# Altium integrated library Atmel Microcontroller AVR Automotive.IntLib: 198 symbols (part 2 of 8)
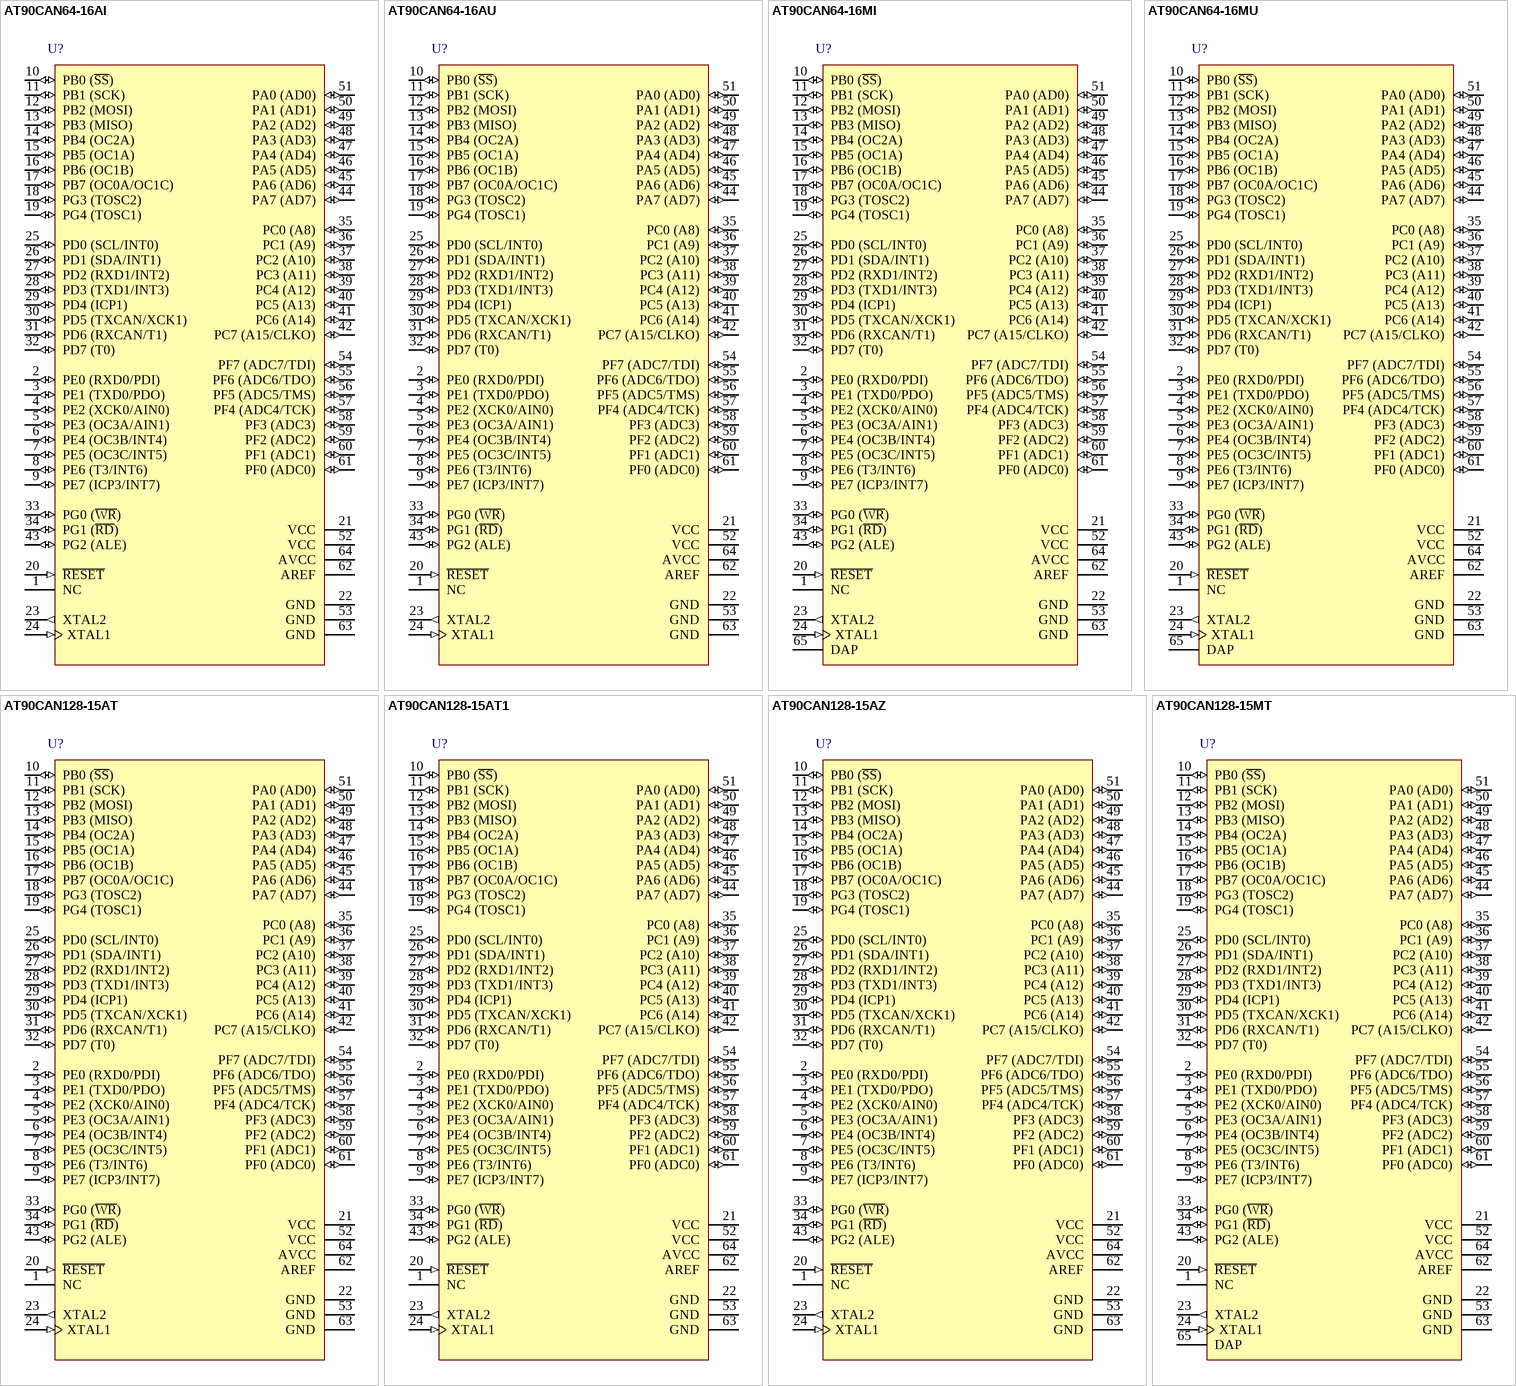
[diagram p23: symbols AT90CAN64-16AI to AT90CAN128-15MT]

## AT90CAN128-15AT1
designator U?
8-bit Automotive AVR Microcontroller, 128KB Flash and CAN Controller, 53 GPIO pins, Automotive Grade (-40°to +105°C), 64-pin LQFP; DatasheetVersion: revC, Apr-2008; PackageVersion: revC, Oct-2010; PackageReference: 64A; PackageDescription: 64-Pin Plastic Thin Profile Quad Flat Pack, 14 x 14 x 1.0 mm Body, 0.8 mm Pitch (TQFP); Code_JEDEC: MS-026-AEB; ComponentLink1Description: Manufacturer URL; ComponentLink1URL: http://www.atmel.com/; ComponentLink2Description: AT90CAN32/64/128 Datasheet; ComponentLink2URL: http://www.atmel.com/dyn/resources/prod_documents/doc7682.pdf; ComponentLink3Description: AT90CAN32/64/128 Summary; ComponentLink3URL: http://www.atmel.com/dyn/resources/prod_documents/7682S.pdf
footprint 64A_N (Thin QFP, 64-Leads, Body 14x14mm, Pitch 0.8mm, IPC Medium Density)
footprint 64A_L (Thin QFP, 64-Leads, Body 14x14mm, Pitch 0.8mm, IPC High Density)
footprint 64A_M (Thin QFP, 64-Leads, Body 14x14mm, Pitch 0.8mm, IPC Low Density)
pins: 1 NC, 2 PE0 (RXD0/PDI) (io), 3 PE1 (TXD0/PDO) (io), 4 PE2 (XCK0/AIN0) (io), 5 PE3 (OC3A/AIN1) (io), 6 PE4 (OC3B/INT4) (io), 7 PE5 (OC3C/INT5) (io), 8 PE6 (T3/INT6) (io), 9 PE7 (ICP3/INT7) (io), 10 PB0 (~{SS}) (io), 11 PB1 (SCK) (io), 12 PB2 (MOSI) (io), 13 PB3 (MISO) (io), 14 PB4 (OC2A) (io), 15 PB5 (OC1A) (io), 16 PB6 (OC1B) (io), 17 PB7 (OC0A/OC1C) (io), 18 PG3 (TOSC2) (io), 19 PG4 (TOSC1) (io), 20 ~{RESET} (in), 21 VCC (power), 22 GND (power), 23 XTAL2 (out), 24 XTAL1 (in), 25 PD0 (SCL/INT0) (io), 26 PD1 (SDA/INT1) (io), 27 PD2 (RXD1/INT2) (io), 28 PD3 (TXD1/INT3) (io), 29 PD4 (ICP1) (io), 30 PD5 (TXCAN/XCK1) (io), 31 PD6 (RXCAN/T1) (io), 32 PD7 (T0) (io), 33 PG0 (~{WR}) (io), 34 PG1 (~{RD}) (io), 35 PC0 (A8) (io), 36 PC1 (A9) (io), 37 PC2 (A10) (io), 38 PC3 (A11) (io), 39 PC4 (A12) (io), 40 PC5 (A13) (io), 41 PC6 (A14) (io), 42 PC7 (A15/CLKO) (io), 43 PG2 (ALE) (io), 44 PA7 (AD7) (io), 45 PA6 (AD6) (io), 46 PA5 (AD5) (io), 47 PA4 (AD4) (io), 48 PA3 (AD3) (io), 49 PA2 (AD2) (io), 50 PA1 (AD1) (io), 51 PA0 (AD0) (io), 52 VCC (power), 53 GND (power), 54 PF7 (ADC7/TDI) (io), 55 PF6 (ADC6/TDO) (io), 56 PF5 (ADC5/TMS) (io), 57 PF4 (ADC4/TCK) (io), 58 PF3 (ADC3) (io), 59 PF2 (ADC2) (io), 60 PF1 (ADC1) (io), 61 PF0 (ADC0) (io), 62 AREF (power), 63 GND (power), 64 AVCC (power)

## AT90CAN128-15AZ
designator U?
8-bit Automotive AVR Microcontroller, 128KB Flash and CAN Controller, 53 GPIO pins, Automotive Grade (-40°to +125°C), 64-pin LQFP; DatasheetVersion: revC, Apr-2008; PackageVersion: revC, Oct-2010; PackageReference: 64A; PackageDescription: 64-Pin Plastic Thin Profile Quad Flat Pack, 14 x 14 x 1.0 mm Body, 0.8 mm Pitch (TQFP); Code_JEDEC: MS-026-AEB; ComponentLink1Description: Manufacturer URL; ComponentLink1URL: http://www.atmel.com/; ComponentLink2Description: AT90CAN32/64/128 Datasheet; ComponentLink2URL: http://www.atmel.com/dyn/resources/prod_documents/doc7682.pdf; ComponentLink3Description: AT90CAN32/64/128 Summary; ComponentLink3URL: http://www.atmel.com/dyn/resources/prod_documents/7682S.pdf
footprint 64A_N (Thin QFP, 64-Leads, Body 14x14mm, Pitch 0.8mm, IPC Medium Density)
footprint 64A_L (Thin QFP, 64-Leads, Body 14x14mm, Pitch 0.8mm, IPC High Density)
footprint 64A_M (Thin QFP, 64-Leads, Body 14x14mm, Pitch 0.8mm, IPC Low Density)
pins: 1 NC, 2 PE0 (RXD0/PDI) (io), 3 PE1 (TXD0/PDO) (io), 4 PE2 (XCK0/AIN0) (io), 5 PE3 (OC3A/AIN1) (io), 6 PE4 (OC3B/INT4) (io), 7 PE5 (OC3C/INT5) (io), 8 PE6 (T3/INT6) (io), 9 PE7 (ICP3/INT7) (io), 10 PB0 (~{SS}) (io), 11 PB1 (SCK) (io), 12 PB2 (MOSI) (io), 13 PB3 (MISO) (io), 14 PB4 (OC2A) (io), 15 PB5 (OC1A) (io), 16 PB6 (OC1B) (io), 17 PB7 (OC0A/OC1C) (io), 18 PG3 (TOSC2) (io), 19 PG4 (TOSC1) (io), 20 ~{RESET} (in), 21 VCC (power), 22 GND (power), 23 XTAL2 (out), 24 XTAL1 (in), 25 PD0 (SCL/INT0) (io), 26 PD1 (SDA/INT1) (io), 27 PD2 (RXD1/INT2) (io), 28 PD3 (TXD1/INT3) (io), 29 PD4 (ICP1) (io), 30 PD5 (TXCAN/XCK1) (io), 31 PD6 (RXCAN/T1) (io), 32 PD7 (T0) (io), 33 PG0 (~{WR}) (io), 34 PG1 (~{RD}) (io), 35 PC0 (A8) (io), 36 PC1 (A9) (io), 37 PC2 (A10) (io), 38 PC3 (A11) (io), 39 PC4 (A12) (io), 40 PC5 (A13) (io), 41 PC6 (A14) (io), 42 PC7 (A15/CLKO) (io), 43 PG2 (ALE) (io), 44 PA7 (AD7) (io), 45 PA6 (AD6) (io), 46 PA5 (AD5) (io), 47 PA4 (AD4) (io), 48 PA3 (AD3) (io), 49 PA2 (AD2) (io), 50 PA1 (AD1) (io), 51 PA0 (AD0) (io), 52 VCC (power), 53 GND (power), 54 PF7 (ADC7/TDI) (io), 55 PF6 (ADC6/TDO) (io), 56 PF5 (ADC5/TMS) (io), 57 PF4 (ADC4/TCK) (io), 58 PF3 (ADC3) (io), 59 PF2 (ADC2) (io), 60 PF1 (ADC1) (io), 61 PF0 (ADC0) (io), 62 AREF (power), 63 GND (power), 64 AVCC (power)

## AT90CAN128-15MT
designator U?
8-bit Automotive AVR Microcontroller, 128KB Flash and CAN Controller, 53 GPIO pins, Automotive Grade (-40°to +85°C), 64-Pin VQFN; DatasheetVersion: revC, Apr-2008; PackageVersion: 2011; PackageReference: Z64-2; PackageDescription: 64-Pin Quad Flat No-Lead, 9 x 9 mm Body, 0.5 mm Pitch, 6 x 6 mm Exposed Pad; Code_JEDEC: MO-220VMMD-3; ComponentLink1Description: Manufacturer URL; ComponentLink1URL: http://www.atmel.com/; ComponentLink2Description: AT90CAN32/64/128 Datasheet; ComponentLink2URL: http://www.atmel.com/dyn/resources/prod_documents/doc7682.pdf; ComponentLink3Description: AT90CAN32/64/128 Summary; ComponentLink3URL: http://www.atmel.com/dyn/resources/prod_documents/7682S.pdf
footprint Z64-2_N (QFN, 64-Leads, Body 9x9mm, Pitch 0.5mm, Thermal Pad 6.1x6.1mm, IPC Medium Density)
footprint Z64-2_L (QFN, 64-Leads, Body 9x9mm, Pitch 0.5mm, Thermal Pad 6.1x6.1mm, IPC High Density)
footprint Z64-2_M (QFN, 64-Leads, Body 9x9mm, Pitch 0.5mm, Thermal Pad 6.1x6.1mm, IPC Low Density)
pins: 1 NC, 2 PE0 (RXD0/PDI) (io), 3 PE1 (TXD0/PDO) (io), 4 PE2 (XCK0/AIN0) (io), 5 PE3 (OC3A/AIN1) (io), 6 PE4 (OC3B/INT4) (io), 7 PE5 (OC3C/INT5) (io), 8 PE6 (T3/INT6) (io), 9 PE7 (ICP3/INT7) (io), 10 PB0 (~{SS}) (io), 11 PB1 (SCK) (io), 12 PB2 (MOSI) (io), 13 PB3 (MISO) (io), 14 PB4 (OC2A) (io), 15 PB5 (OC1A) (io), 16 PB6 (OC1B) (io), 17 PB7 (OC0A/OC1C) (io), 18 PG3 (TOSC2) (io), 19 PG4 (TOSC1) (io), 20 ~{RESET} (in), 21 VCC (power), 22 GND (power), 23 XTAL2 (out), 24 XTAL1 (in), 25 PD0 (SCL/INT0) (io), 26 PD1 (SDA/INT1) (io), 27 PD2 (RXD1/INT2) (io), 28 PD3 (TXD1/INT3) (io), 29 PD4 (ICP1) (io), 30 PD5 (TXCAN/XCK1) (io), 31 PD6 (RXCAN/T1) (io), 32 PD7 (T0) (io), 33 PG0 (~{WR}) (io), 34 PG1 (~{RD}) (io), 35 PC0 (A8) (io), 36 PC1 (A9) (io), 37 PC2 (A10) (io), 38 PC3 (A11) (io), 39 PC4 (A12) (io), 40 PC5 (A13) (io), 41 PC6 (A14) (io), 42 PC7 (A15/CLKO) (io), 43 PG2 (ALE) (io), 44 PA7 (AD7) (io), 45 PA6 (AD6) (io), 46 PA5 (AD5) (io), 47 PA4 (AD4) (io), 48 PA3 (AD3) (io), 49 PA2 (AD2) (io), 50 PA1 (AD1) (io), 51 PA0 (AD0) (io), 52 VCC (power), 53 GND (power), 54 PF7 (ADC7/TDI) (io), 55 PF6 (ADC6/TDO) (io), 56 PF5 (ADC5/TMS) (io), 57 PF4 (ADC4/TCK) (io), 58 PF3 (ADC3) (io), 59 PF2 (ADC2) (io), 60 PF1 (ADC1) (io), 61 PF0 (ADC0) (io), 62 AREF (power), 63 GND (power), 64 AVCC (power), 65 DAP (power)

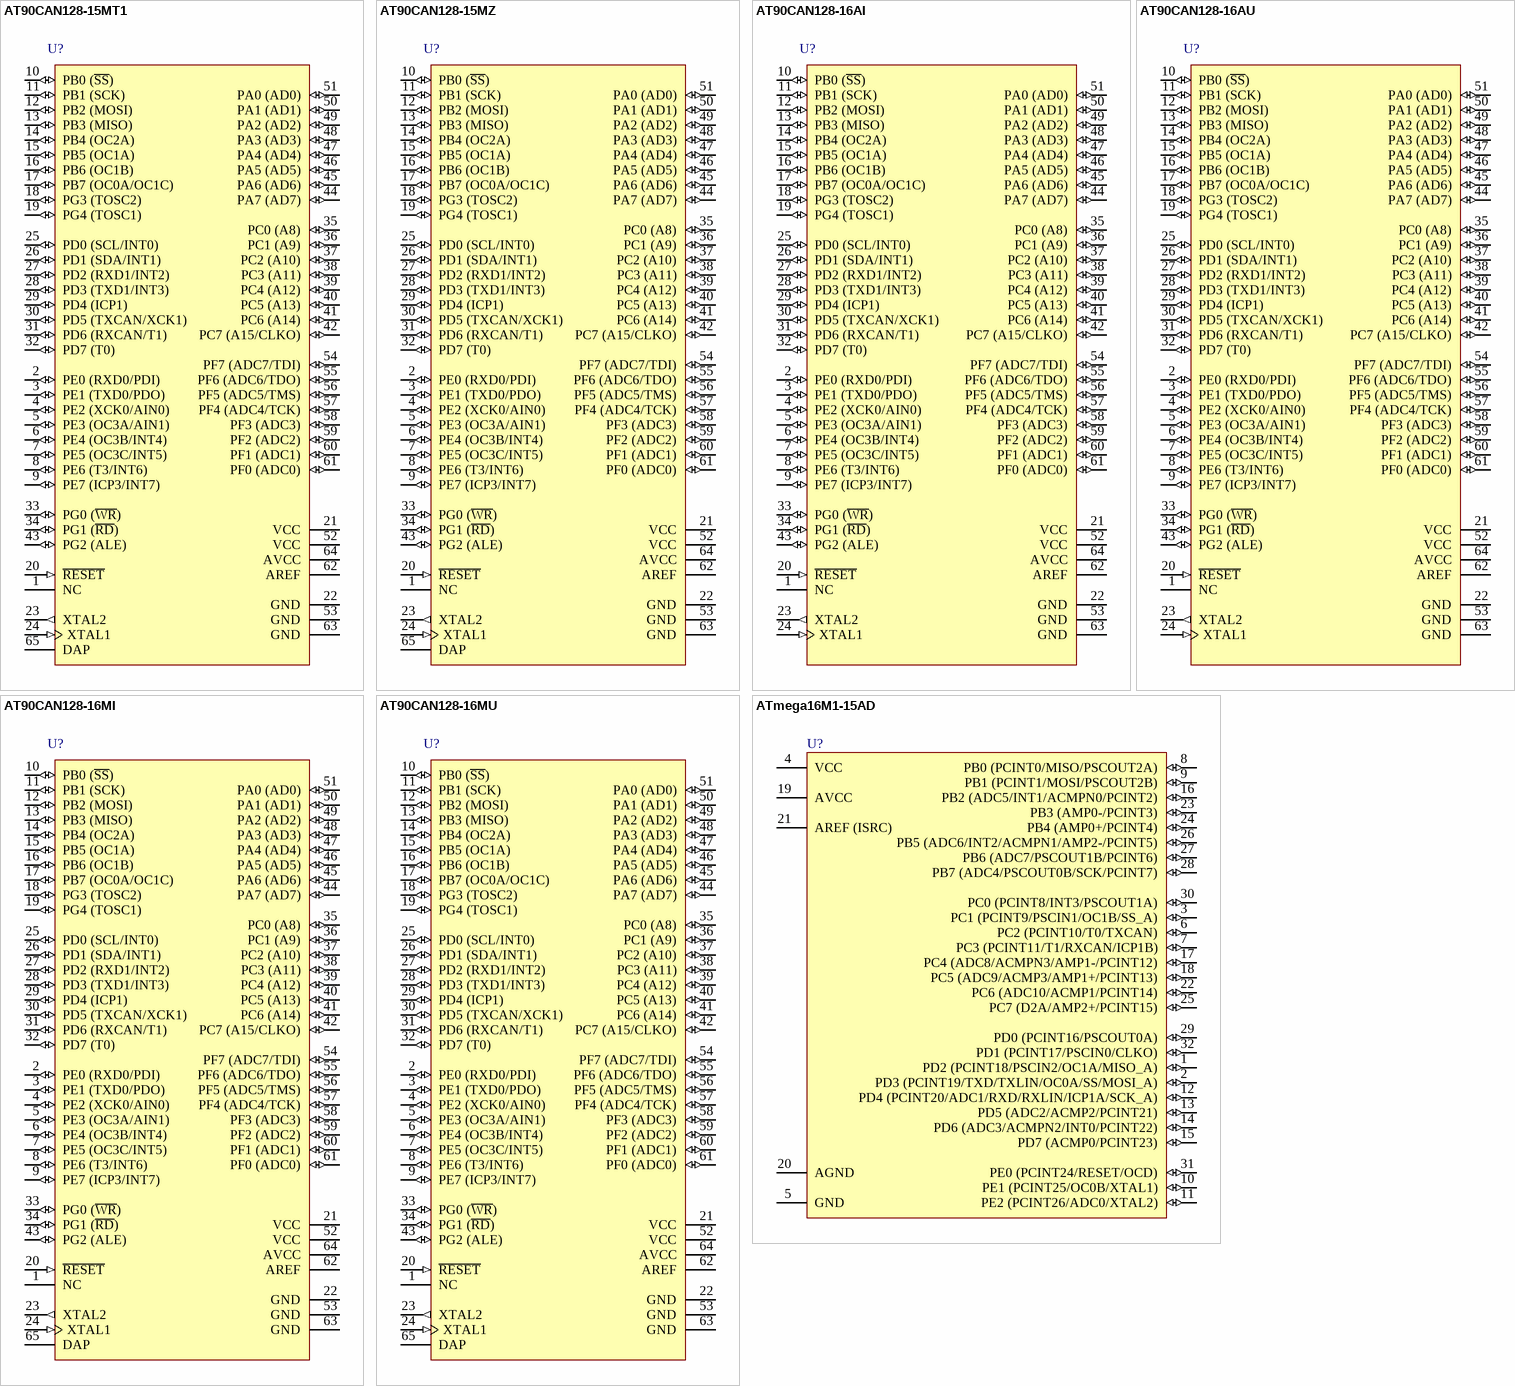
[diagram p3: symbols AT90CAN128-15MT1 to ATmega16M1-15AD]

## AT90CAN128-15MT1
designator U?
8-bit Automotive AVR Microcontroller, 128KB Flash and CAN Controller, 53 GPIO pins, Automotive Grade (-40°to +105C), 64-Pin VQFN; DatasheetVersion: revC, Apr-2008; PackageVersion: 2011; PackageReference: Z64-2; PackageDescription: 64-Pin Quad Flat No-Lead, 9 x 9 mm Body, 0.5 mm Pitch, 6 x 6 mm Exposed Pad; Code_JEDEC: MO-220VMMD-3; ComponentLink1Description: Manufacturer URL; ComponentLink1URL: http://www.atmel.com/; ComponentLink2Description: AT90CAN32/64/128 Datasheet; ComponentLink2URL: http://www.atmel.com/dyn/resources/prod_documents/doc7682.pdf; ComponentLink3Description: AT90CAN32/64/128 Summary; ComponentLink3URL: http://www.atmel.com/dyn/resources/prod_documents/7682S.pdf
footprint Z64-2_N (QFN, 64-Leads, Body 9x9mm, Pitch 0.5mm, Thermal Pad 6.1x6.1mm, IPC Medium Density)
footprint Z64-2_L (QFN, 64-Leads, Body 9x9mm, Pitch 0.5mm, Thermal Pad 6.1x6.1mm, IPC High Density)
footprint Z64-2_M (QFN, 64-Leads, Body 9x9mm, Pitch 0.5mm, Thermal Pad 6.1x6.1mm, IPC Low Density)
pins: 1 NC, 2 PE0 (RXD0/PDI) (io), 3 PE1 (TXD0/PDO) (io), 4 PE2 (XCK0/AIN0) (io), 5 PE3 (OC3A/AIN1) (io), 6 PE4 (OC3B/INT4) (io), 7 PE5 (OC3C/INT5) (io), 8 PE6 (T3/INT6) (io), 9 PE7 (ICP3/INT7) (io), 10 PB0 (~{SS}) (io), 11 PB1 (SCK) (io), 12 PB2 (MOSI) (io), 13 PB3 (MISO) (io), 14 PB4 (OC2A) (io), 15 PB5 (OC1A) (io), 16 PB6 (OC1B) (io), 17 PB7 (OC0A/OC1C) (io), 18 PG3 (TOSC2) (io), 19 PG4 (TOSC1) (io), 20 ~{RESET} (in), 21 VCC (power), 22 GND (power), 23 XTAL2 (out), 24 XTAL1 (in), 25 PD0 (SCL/INT0) (io), 26 PD1 (SDA/INT1) (io), 27 PD2 (RXD1/INT2) (io), 28 PD3 (TXD1/INT3) (io), 29 PD4 (ICP1) (io), 30 PD5 (TXCAN/XCK1) (io), 31 PD6 (RXCAN/T1) (io), 32 PD7 (T0) (io), 33 PG0 (~{WR}) (io), 34 PG1 (~{RD}) (io), 35 PC0 (A8) (io), 36 PC1 (A9) (io), 37 PC2 (A10) (io), 38 PC3 (A11) (io), 39 PC4 (A12) (io), 40 PC5 (A13) (io), 41 PC6 (A14) (io), 42 PC7 (A15/CLKO) (io), 43 PG2 (ALE) (io), 44 PA7 (AD7) (io), 45 PA6 (AD6) (io), 46 PA5 (AD5) (io), 47 PA4 (AD4) (io), 48 PA3 (AD3) (io), 49 PA2 (AD2) (io), 50 PA1 (AD1) (io), 51 PA0 (AD0) (io), 52 VCC (power), 53 GND (power), 54 PF7 (ADC7/TDI) (io), 55 PF6 (ADC6/TDO) (io), 56 PF5 (ADC5/TMS) (io), 57 PF4 (ADC4/TCK) (io), 58 PF3 (ADC3) (io), 59 PF2 (ADC2) (io), 60 PF1 (ADC1) (io), 61 PF0 (ADC0) (io), 62 AREF (power), 63 GND (power), 64 AVCC (power), 65 DAP (power)

## AT90CAN128-15MZ
designator U?
8-bit Automotive AVR Microcontroller, 128KB Flash and CAN Controller, 53 GPIO pins, Automotive Grade (-40°to +125°C), 64-Pin VQFN; DatasheetVersion: revC, Apr-2008; PackageVersion: 2011; PackageReference: Z64-2; PackageDescription: 64-Pin Quad Flat No-Lead, 9 x 9 mm Body, 0.5 mm Pitch, 6 x 6 mm Exposed Pad; Code_JEDEC: MO-220VMMD-3; ComponentLink1Description: Manufacturer URL; ComponentLink1URL: http://www.atmel.com/; ComponentLink2Description: AT90CAN32/64/128 Datasheet; ComponentLink2URL: http://www.atmel.com/dyn/resources/prod_documents/doc7682.pdf; ComponentLink3Description: AT90CAN32/64/128 Summary; ComponentLink3URL: http://www.atmel.com/dyn/resources/prod_documents/7682S.pdf
footprint Z64-2_N (QFN, 64-Leads, Body 9x9mm, Pitch 0.5mm, Thermal Pad 6.1x6.1mm, IPC Medium Density)
footprint Z64-2_L (QFN, 64-Leads, Body 9x9mm, Pitch 0.5mm, Thermal Pad 6.1x6.1mm, IPC High Density)
footprint Z64-2_M (QFN, 64-Leads, Body 9x9mm, Pitch 0.5mm, Thermal Pad 6.1x6.1mm, IPC Low Density)
pins: 1 NC, 2 PE0 (RXD0/PDI) (io), 3 PE1 (TXD0/PDO) (io), 4 PE2 (XCK0/AIN0) (io), 5 PE3 (OC3A/AIN1) (io), 6 PE4 (OC3B/INT4) (io), 7 PE5 (OC3C/INT5) (io), 8 PE6 (T3/INT6) (io), 9 PE7 (ICP3/INT7) (io), 10 PB0 (~{SS}) (io), 11 PB1 (SCK) (io), 12 PB2 (MOSI) (io), 13 PB3 (MISO) (io), 14 PB4 (OC2A) (io), 15 PB5 (OC1A) (io), 16 PB6 (OC1B) (io), 17 PB7 (OC0A/OC1C) (io), 18 PG3 (TOSC2) (io), 19 PG4 (TOSC1) (io), 20 ~{RESET} (in), 21 VCC (power), 22 GND (power), 23 XTAL2 (out), 24 XTAL1 (in), 25 PD0 (SCL/INT0) (io), 26 PD1 (SDA/INT1) (io), 27 PD2 (RXD1/INT2) (io), 28 PD3 (TXD1/INT3) (io), 29 PD4 (ICP1) (io), 30 PD5 (TXCAN/XCK1) (io), 31 PD6 (RXCAN/T1) (io), 32 PD7 (T0) (io), 33 PG0 (~{WR}) (io), 34 PG1 (~{RD}) (io), 35 PC0 (A8) (io), 36 PC1 (A9) (io), 37 PC2 (A10) (io), 38 PC3 (A11) (io), 39 PC4 (A12) (io), 40 PC5 (A13) (io), 41 PC6 (A14) (io), 42 PC7 (A15/CLKO) (io), 43 PG2 (ALE) (io), 44 PA7 (AD7) (io), 45 PA6 (AD6) (io), 46 PA5 (AD5) (io), 47 PA4 (AD4) (io), 48 PA3 (AD3) (io), 49 PA2 (AD2) (io), 50 PA1 (AD1) (io), 51 PA0 (AD0) (io), 52 VCC (power), 53 GND (power), 54 PF7 (ADC7/TDI) (io), 55 PF6 (ADC6/TDO) (io), 56 PF5 (ADC5/TMS) (io), 57 PF4 (ADC4/TCK) (io), 58 PF3 (ADC3) (io), 59 PF2 (ADC2) (io), 60 PF1 (ADC1) (io), 61 PF0 (ADC0) (io), 62 AREF (power), 63 GND (power), 64 AVCC (power), 65 DAP (power)

## AT90CAN128-16AI
designator U?
8-bit AVR Microcontroller, 128KB Flash and CAN Controller, 53 GPIO pins, Industrial Grade (-40° to +85°C), 64-pin LQFP; DatasheetVersion: revH, Aug-2008; PackageVersion: revC, Oct-2010; PackageReference: 64A; PackageDescription: 64-Pin Plastic Thin Profile Quad Flat Pack, 14 x 14 x 1.0 mm Body, 0.8 mm Pitch (TQFP); Code_JEDEC: MS-026-AEB; ComponentLink1Description: Manufacturer URL; ComponentLink1URL: http://www.atmel.com/; ComponentLink2Description: AT90CAN32/64/128 Datasheet; ComponentLink2URL: http://www.atmel.com/dyn/resources/prod_documents/doc7679.pdf; ComponentLink3Description: AT90CAN32/64/128 Summary; ComponentLink3URL: http://www.atmel.com/dyn/resources/prod_documents/7679S.pdf
footprint 64A_N (Thin QFP, 64-Leads, Body 14x14mm, Pitch 0.8mm, IPC Medium Density)
footprint 64A_L (Thin QFP, 64-Leads, Body 14x14mm, Pitch 0.8mm, IPC High Density)
footprint 64A_M (Thin QFP, 64-Leads, Body 14x14mm, Pitch 0.8mm, IPC Low Density)
pins: 1 NC, 2 PE0 (RXD0/PDI) (io), 3 PE1 (TXD0/PDO) (io), 4 PE2 (XCK0/AIN0) (io), 5 PE3 (OC3A/AIN1) (io), 6 PE4 (OC3B/INT4) (io), 7 PE5 (OC3C/INT5) (io), 8 PE6 (T3/INT6) (io), 9 PE7 (ICP3/INT7) (io), 10 PB0 (~{SS}) (io), 11 PB1 (SCK) (io), 12 PB2 (MOSI) (io), 13 PB3 (MISO) (io), 14 PB4 (OC2A) (io), 15 PB5 (OC1A) (io), 16 PB6 (OC1B) (io), 17 PB7 (OC0A/OC1C) (io), 18 PG3 (TOSC2) (io), 19 PG4 (TOSC1) (io), 20 ~{RESET} (in), 21 VCC (power), 22 GND (power), 23 XTAL2 (out), 24 XTAL1 (in), 25 PD0 (SCL/INT0) (io), 26 PD1 (SDA/INT1) (io), 27 PD2 (RXD1/INT2) (io), 28 PD3 (TXD1/INT3) (io), 29 PD4 (ICP1) (io), 30 PD5 (TXCAN/XCK1) (io), 31 PD6 (RXCAN/T1) (io), 32 PD7 (T0) (io), 33 PG0 (~{WR}) (io), 34 PG1 (~{RD}) (io), 35 PC0 (A8) (io), 36 PC1 (A9) (io), 37 PC2 (A10) (io), 38 PC3 (A11) (io), 39 PC4 (A12) (io), 40 PC5 (A13) (io), 41 PC6 (A14) (io), 42 PC7 (A15/CLKO) (io), 43 PG2 (ALE) (io), 44 PA7 (AD7) (io), 45 PA6 (AD6) (io), 46 PA5 (AD5) (io), 47 PA4 (AD4) (io), 48 PA3 (AD3) (io), 49 PA2 (AD2) (io), 50 PA1 (AD1) (io), 51 PA0 (AD0) (io), 52 VCC (power), 53 GND (power), 54 PF7 (ADC7/TDI) (io), 55 PF6 (ADC6/TDO) (io), 56 PF5 (ADC5/TMS) (io), 57 PF4 (ADC4/TCK) (io), 58 PF3 (ADC3) (io), 59 PF2 (ADC2) (io), 60 PF1 (ADC1) (io), 61 PF0 (ADC0) (io), 62 AREF (power), 63 GND (power), 64 AVCC (power)

## AT90CAN128-16AU
designator U?
8-bit AVR Microcontroller, 128KB Flash and CAN Controller, 53 GPIO pins, Industrial Grade (-40° to +85°C), 64-pin LQFP, Green; DatasheetVersion: revH, Aug-2008; PackageVersion: revC, Oct-2010; PackageReference: 64A; PackageDescription: 64-Pin Plastic Thin Profile Quad Flat Pack, 14 x 14 x 1.0 mm Body, 0.8 mm Pitch (TQFP); Code_JEDEC: MS-026-AEB; ComponentLink1Description: Manufacturer URL; ComponentLink1URL: http://www.atmel.com/; ComponentLink2Description: AT90CAN32/64/128 Datasheet; ComponentLink2URL: http://www.atmel.com/dyn/resources/prod_documents/doc7679.pdf; ComponentLink3Description: AT90CAN32/64/128 Summary; ComponentLink3URL: http://www.atmel.com/dyn/resources/prod_documents/7679S.pdf
footprint 64A_N (Thin QFP, 64-Leads, Body 14x14mm, Pitch 0.8mm, IPC Medium Density)
footprint 64A_L (Thin QFP, 64-Leads, Body 14x14mm, Pitch 0.8mm, IPC High Density)
footprint 64A_M (Thin QFP, 64-Leads, Body 14x14mm, Pitch 0.8mm, IPC Low Density)
pins: 1 NC, 2 PE0 (RXD0/PDI) (io), 3 PE1 (TXD0/PDO) (io), 4 PE2 (XCK0/AIN0) (io), 5 PE3 (OC3A/AIN1) (io), 6 PE4 (OC3B/INT4) (io), 7 PE5 (OC3C/INT5) (io), 8 PE6 (T3/INT6) (io), 9 PE7 (ICP3/INT7) (io), 10 PB0 (~{SS}) (io), 11 PB1 (SCK) (io), 12 PB2 (MOSI) (io), 13 PB3 (MISO) (io), 14 PB4 (OC2A) (io), 15 PB5 (OC1A) (io), 16 PB6 (OC1B) (io), 17 PB7 (OC0A/OC1C) (io), 18 PG3 (TOSC2) (io), 19 PG4 (TOSC1) (io), 20 ~{RESET} (in), 21 VCC (power), 22 GND (power), 23 XTAL2 (out), 24 XTAL1 (in), 25 PD0 (SCL/INT0) (io), 26 PD1 (SDA/INT1) (io), 27 PD2 (RXD1/INT2) (io), 28 PD3 (TXD1/INT3) (io), 29 PD4 (ICP1) (io), 30 PD5 (TXCAN/XCK1) (io), 31 PD6 (RXCAN/T1) (io), 32 PD7 (T0) (io), 33 PG0 (~{WR}) (io), 34 PG1 (~{RD}) (io), 35 PC0 (A8) (io), 36 PC1 (A9) (io), 37 PC2 (A10) (io), 38 PC3 (A11) (io), 39 PC4 (A12) (io), 40 PC5 (A13) (io), 41 PC6 (A14) (io), 42 PC7 (A15/CLKO) (io), 43 PG2 (ALE) (io), 44 PA7 (AD7) (io), 45 PA6 (AD6) (io), 46 PA5 (AD5) (io), 47 PA4 (AD4) (io), 48 PA3 (AD3) (io), 49 PA2 (AD2) (io), 50 PA1 (AD1) (io), 51 PA0 (AD0) (io), 52 VCC (power), 53 GND (power), 54 PF7 (ADC7/TDI) (io), 55 PF6 (ADC6/TDO) (io), 56 PF5 (ADC5/TMS) (io), 57 PF4 (ADC4/TCK) (io), 58 PF3 (ADC3) (io), 59 PF2 (ADC2) (io), 60 PF1 (ADC1) (io), 61 PF0 (ADC0) (io), 62 AREF (power), 63 GND (power), 64 AVCC (power)

## AT90CAN128-16MI
designator U?
8-bit AVR Microcontroller, 128KB Flash and CAN Controller, 53 GPIO pins, Industrial Grade (-40° to +85°C), 64-pin VQFN; DatasheetVersion: revH, Aug-2008; PackageVersion: 2011; PackageReference: Z64-2; PackageDescription: 64-Pin Quad Flat No-Lead, 9 x 9 mm Body, 0.5 mm Pitch, 6 x 6 mm Exposed Pad; Code_JEDEC: MO-220VMMD-3; ComponentLink1Description: Manufacturer URL; ComponentLink1URL: http://www.atmel.com/; ComponentLink2Description: AT90CAN32/64/128 Datasheet; ComponentLink2URL: http://www.atmel.com/dyn/resources/prod_documents/doc7679.pdf; ComponentLink3Description: AT90CAN32/64/128 Summary; ComponentLink3URL: http://www.atmel.com/dyn/resources/prod_documents/7679S.pdf
footprint Z64-2_N (QFN, 64-Leads, Body 9x9mm, Pitch 0.5mm, Thermal Pad 6.1x6.1mm, IPC Medium Density)
footprint Z64-2_L (QFN, 64-Leads, Body 9x9mm, Pitch 0.5mm, Thermal Pad 6.1x6.1mm, IPC High Density)
footprint Z64-2_M (QFN, 64-Leads, Body 9x9mm, Pitch 0.5mm, Thermal Pad 6.1x6.1mm, IPC Low Density)
pins: 1 NC, 2 PE0 (RXD0/PDI) (io), 3 PE1 (TXD0/PDO) (io), 4 PE2 (XCK0/AIN0) (io), 5 PE3 (OC3A/AIN1) (io), 6 PE4 (OC3B/INT4) (io), 7 PE5 (OC3C/INT5) (io), 8 PE6 (T3/INT6) (io), 9 PE7 (ICP3/INT7) (io), 10 PB0 (~{SS}) (io), 11 PB1 (SCK) (io), 12 PB2 (MOSI) (io), 13 PB3 (MISO) (io), 14 PB4 (OC2A) (io), 15 PB5 (OC1A) (io), 16 PB6 (OC1B) (io), 17 PB7 (OC0A/OC1C) (io), 18 PG3 (TOSC2) (io), 19 PG4 (TOSC1) (io), 20 ~{RESET} (in), 21 VCC (power), 22 GND (power), 23 XTAL2 (out), 24 XTAL1 (in), 25 PD0 (SCL/INT0) (io), 26 PD1 (SDA/INT1) (io), 27 PD2 (RXD1/INT2) (io), 28 PD3 (TXD1/INT3) (io), 29 PD4 (ICP1) (io), 30 PD5 (TXCAN/XCK1) (io), 31 PD6 (RXCAN/T1) (io), 32 PD7 (T0) (io), 33 PG0 (~{WR}) (io), 34 PG1 (~{RD}) (io), 35 PC0 (A8) (io), 36 PC1 (A9) (io), 37 PC2 (A10) (io), 38 PC3 (A11) (io), 39 PC4 (A12) (io), 40 PC5 (A13) (io), 41 PC6 (A14) (io), 42 PC7 (A15/CLKO) (io), 43 PG2 (ALE) (io), 44 PA7 (AD7) (io), 45 PA6 (AD6) (io), 46 PA5 (AD5) (io), 47 PA4 (AD4) (io), 48 PA3 (AD3) (io), 49 PA2 (AD2) (io), 50 PA1 (AD1) (io), 51 PA0 (AD0) (io), 52 VCC (power), 53 GND (power), 54 PF7 (ADC7/TDI) (io), 55 PF6 (ADC6/TDO) (io), 56 PF5 (ADC5/TMS) (io), 57 PF4 (ADC4/TCK) (io), 58 PF3 (ADC3) (io), 59 PF2 (ADC2) (io), 60 PF1 (ADC1) (io), 61 PF0 (ADC0) (io), 62 AREF (power), 63 GND (power), 64 AVCC (power), 65 DAP (power)

## AT90CAN128-16MU
designator U?
8-bit AVR Microcontroller, 128KB Flash and CAN Controller, 53 GPIO pins, Industrial Grade (-40° to +85°C), 64-pin VQFN, Green; DatasheetVersion: revH, Aug-2008; PackageVersion: 2011; PackageReference: Z64-2; PackageDescription: 64-Pin Quad Flat No-Lead, 9 x 9 mm Body, 0.5 mm Pitch, 6 x 6 mm Exposed Pad; Code_JEDEC: MO-220VMMD-3; ComponentLink1Description: Manufacturer URL; ComponentLink1URL: http://www.atmel.com/; ComponentLink2Description: AT90CAN32/64/128 Datasheet; ComponentLink2URL: http://www.atmel.com/dyn/resources/prod_documents/doc7679.pdf; ComponentLink3Description: AT90CAN32/64/128 Summary; ComponentLink3URL: http://www.atmel.com/dyn/resources/prod_documents/7679S.pdf
footprint Z64-2_N (QFN, 64-Leads, Body 9x9mm, Pitch 0.5mm, Thermal Pad 6.1x6.1mm, IPC Medium Density)
footprint Z64-2_L (QFN, 64-Leads, Body 9x9mm, Pitch 0.5mm, Thermal Pad 6.1x6.1mm, IPC High Density)
footprint Z64-2_M (QFN, 64-Leads, Body 9x9mm, Pitch 0.5mm, Thermal Pad 6.1x6.1mm, IPC Low Density)
pins: 1 NC, 2 PE0 (RXD0/PDI) (io), 3 PE1 (TXD0/PDO) (io), 4 PE2 (XCK0/AIN0) (io), 5 PE3 (OC3A/AIN1) (io), 6 PE4 (OC3B/INT4) (io), 7 PE5 (OC3C/INT5) (io), 8 PE6 (T3/INT6) (io), 9 PE7 (ICP3/INT7) (io), 10 PB0 (~{SS}) (io), 11 PB1 (SCK) (io), 12 PB2 (MOSI) (io), 13 PB3 (MISO) (io), 14 PB4 (OC2A) (io), 15 PB5 (OC1A) (io), 16 PB6 (OC1B) (io), 17 PB7 (OC0A/OC1C) (io), 18 PG3 (TOSC2) (io), 19 PG4 (TOSC1) (io), 20 ~{RESET} (in), 21 VCC (power), 22 GND (power), 23 XTAL2 (out), 24 XTAL1 (in), 25 PD0 (SCL/INT0) (io), 26 PD1 (SDA/INT1) (io), 27 PD2 (RXD1/INT2) (io), 28 PD3 (TXD1/INT3) (io), 29 PD4 (ICP1) (io), 30 PD5 (TXCAN/XCK1) (io), 31 PD6 (RXCAN/T1) (io), 32 PD7 (T0) (io), 33 PG0 (~{WR}) (io), 34 PG1 (~{RD}) (io), 35 PC0 (A8) (io), 36 PC1 (A9) (io), 37 PC2 (A10) (io), 38 PC3 (A11) (io), 39 PC4 (A12) (io), 40 PC5 (A13) (io), 41 PC6 (A14) (io), 42 PC7 (A15/CLKO) (io), 43 PG2 (ALE) (io), 44 PA7 (AD7) (io), 45 PA6 (AD6) (io), 46 PA5 (AD5) (io), 47 PA4 (AD4) (io), 48 PA3 (AD3) (io), 49 PA2 (AD2) (io), 50 PA1 (AD1) (io), 51 PA0 (AD0) (io), 52 VCC (power), 53 GND (power), 54 PF7 (ADC7/TDI) (io), 55 PF6 (ADC6/TDO) (io), 56 PF5 (ADC5/TMS) (io), 57 PF4 (ADC4/TCK) (io), 58 PF3 (ADC3) (io), 59 PF2 (ADC2) (io), 60 PF1 (ADC1) (io), 61 PF0 (ADC0) (io), 62 AREF (power), 63 GND (power), 64 AVCC (power), 65 DAP (power)

## ATmega16M1-15AD
designator U?
8-bit Automotive AVR Microcontroller, 4.5-5.5V, 16MHz, 16KB Flash, 512 Bytes EEPROM, 1KB SRAM, Extended Grade (-40°C to +150°C), 32-Pin TQFP; DatasheetVersion: revG, Sep-2011; PackageVersion: revB, Jul-2007; PackageReference: 32MA; PackageDescription: 32-Lead Thin Profile Plastic Quad Flatpack (TQFP) - 7x7x1mm Body,  0.8 mm Pitch; ComponentLink1Description: Manufacturer URL; ComponentLink1URL: http://www.atmel.com/; ComponentLink2Description: ATmega32C1/32M1/64C1/64M1 Automotive Datasheet; ComponentLink2URL: http://www.atmel.com/dyn/resources/prod_documents/doc7647.pdf; ComponentLink3Description: ATmega16M1/32M1/32C1/64M1/64C1 Appendix; ComponentLink3URL: http://www.atmel.com/dyn/resources/prod_documents/doc7781.pdf
footprint 32MA_N (Thin QFP, 32-Leads, Body 7x7mm, Pitch 0.8mm, IPC Medium Density)
footprint 32MA_L (Thin QFP, 32-Leads, Body 7x7mm, Pitch 0.8mm, IPC High Density)
footprint 32MA_M (Thin QFP, 32-Leads, Body 7x7mm, Pitch 0.8mm, IPC Low Density)
pins: 1 PD2 (PCINT18/PSCIN2/OC1A/MISO_A) (io), 2 PD3 (PCINT19/TXD/TXLIN/OC0A/SS/MOSI_A) (io), 3 PC1 (PCINT9/PSCIN1/OC1B/SS_A) (io), 4 VCC (power), 5 GND (power), 6 PC2 (PCINT10/T0/TXCAN) (io), 7 PC3 (PCINT11/T1/RXCAN/ICP1B) (io), 8 PB0 (PCINT0/MISO/PSCOUT2A) (io), 9 PB1 (PCINT1/MOSI/PSCOUT2B) (io), 10 PE1 (PCINT25/OC0B/XTAL1) (io), 11 PE2 (PCINT26/ADC0/XTAL2) (io), 12 PD4 (PCINT20/ADC1/RXD/RXLIN/ICP1A/SCK_A) (io), 13 PD5 (ADC2/ACMP2/PCINT21) (io), 14 PD6 (ADC3/ACMPN2/INT0/PCINT22) (io), 15 PD7 (ACMP0/PCINT23) (io), 16 PB2 (ADC5/INT1/ACMPN0/PCINT2) (io), 17 PC4 (ADC8/ACMPN3/AMP1-/PCINT12) (io), 18 PC5 (ADC9/ACMP3/AMP1+/PCINT13) (io), 19 AVCC (power), 20 AGND (power), 21 AREF (ISRC) (power), 22 PC6 (ADC10/ACMP1/PCINT14) (io), 23 PB3 (AMP0-/PCINT3) (io), 24 PB4 (AMP0+/PCINT4) (io), 25 PC7 (D2A/AMP2+/PCINT15) (io), 26 PB5 (ADC6/INT2/ACMPN1/AMP2-/PCINT5) (io), 27 PB6 (ADC7/PSCOUT1B/PCINT6) (io), 28 PB7 (ADC4/PSCOUT0B/SCK/PCINT7) (io), 29 PD0 (PCINT16/PSCOUT0A) (io), 30 PC0 (PCINT8/INT3/PSCOUT1A) (io), 31 PE0 (PCINT24/RESET/OCD) (io), 32 PD1 (PCINT17/PSCIN0/CLKO) (io)

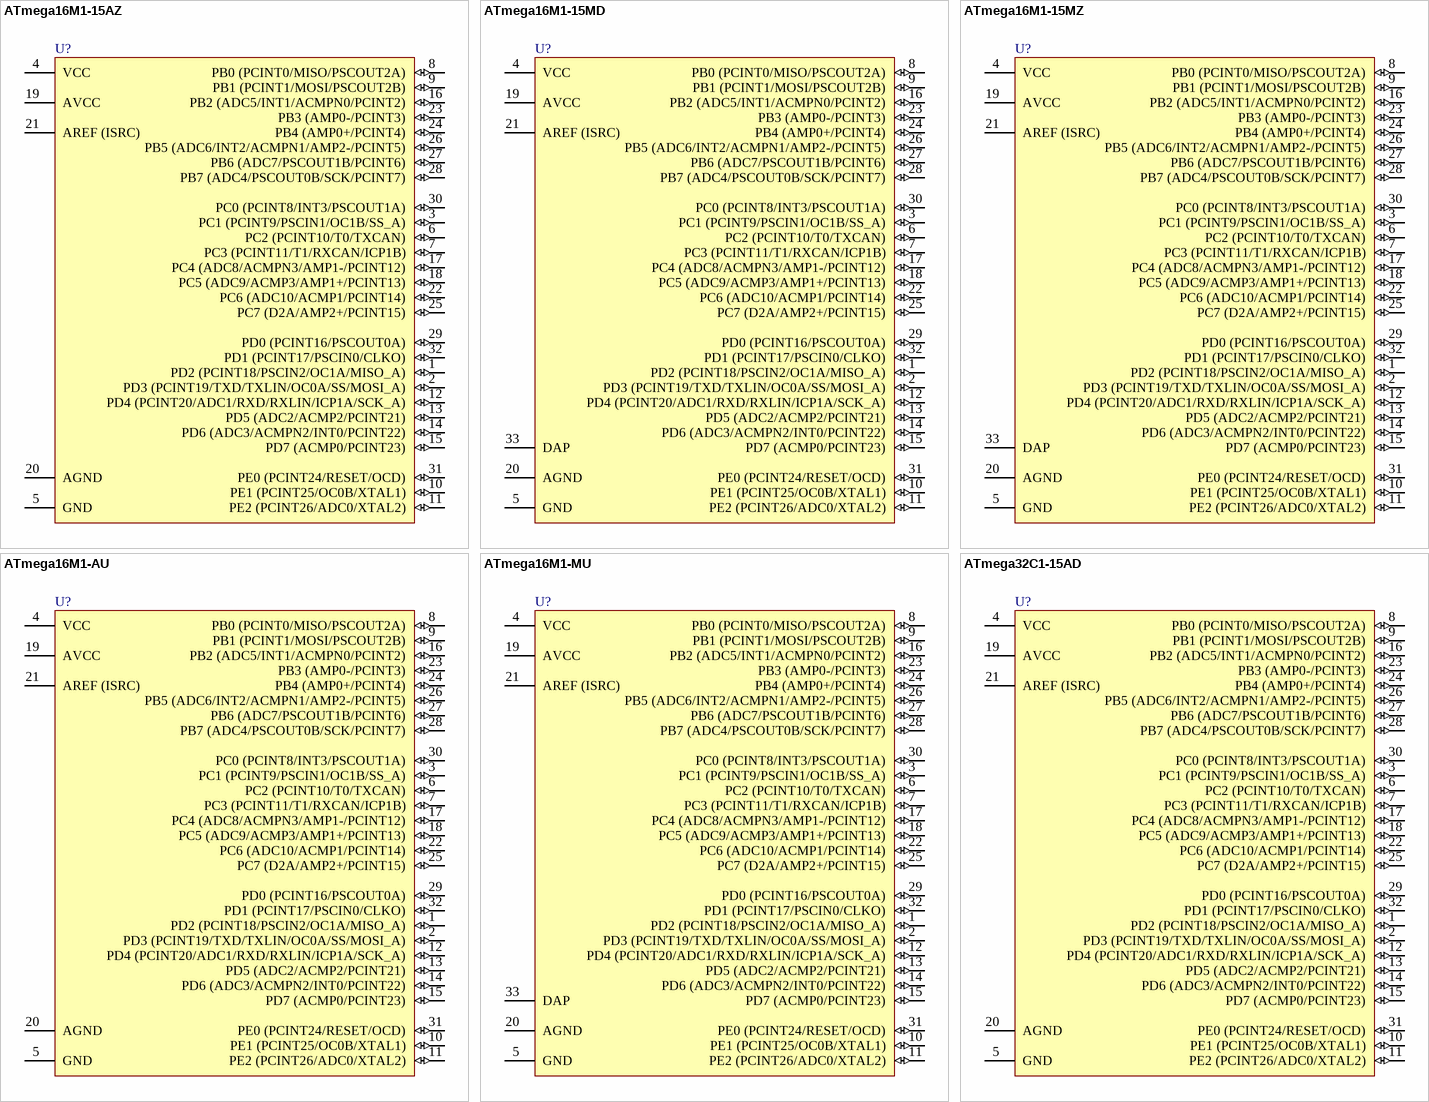
[diagram p4: symbols ATmega16M1-15AZ to ATmega32C1-15AD]

## ATmega16M1-15AZ
designator U?
8-bit Automotive AVR Microcontroller, 2.7-5.5V, 16KB Flash, 512 Bytes EEPROM, 1KB SRAM, 12-bit PSC, 32-pin TQFP, (-40°C to 125°C); DatasheetVersion: revG, Sep-2011; PackageVersion: revB, Jul-2007; PackageReference: 32MA; PackageDescription: 32-Lead Thin Profile Plastic Quad Flatpack (TQFP) - 7x7x1mm Body,  0.8 mm Pitch; ComponentLink1Description: Manufacturer URL; ComponentLink1URL: http://www.atmel.com/; ComponentLink2Description: ATmega32C1/32M1/64C1/64M1 Automotive Datasheet; ComponentLink2URL: http://www.atmel.com/dyn/resources/prod_documents/doc7647.pdf; ComponentLink3Description: ATmega16M1/32M1/32C1/64M1/64C1 Appendix; ComponentLink3URL: http://www.atmel.com/dyn/resources/prod_documents/doc7781.pdf
footprint 32MA_N (Thin QFP, 32-Leads, Body 7x7mm, Pitch 0.8mm, IPC Medium Density)
footprint 32MA_L (Thin QFP, 32-Leads, Body 7x7mm, Pitch 0.8mm, IPC High Density)
footprint 32MA_M (Thin QFP, 32-Leads, Body 7x7mm, Pitch 0.8mm, IPC Low Density)
pins: 1 PD2 (PCINT18/PSCIN2/OC1A/MISO_A) (io), 2 PD3 (PCINT19/TXD/TXLIN/OC0A/SS/MOSI_A) (io), 3 PC1 (PCINT9/PSCIN1/OC1B/SS_A) (io), 4 VCC (power), 5 GND (power), 6 PC2 (PCINT10/T0/TXCAN) (io), 7 PC3 (PCINT11/T1/RXCAN/ICP1B) (io), 8 PB0 (PCINT0/MISO/PSCOUT2A) (io), 9 PB1 (PCINT1/MOSI/PSCOUT2B) (io), 10 PE1 (PCINT25/OC0B/XTAL1) (io), 11 PE2 (PCINT26/ADC0/XTAL2) (io), 12 PD4 (PCINT20/ADC1/RXD/RXLIN/ICP1A/SCK_A) (io), 13 PD5 (ADC2/ACMP2/PCINT21) (io), 14 PD6 (ADC3/ACMPN2/INT0/PCINT22) (io), 15 PD7 (ACMP0/PCINT23) (io), 16 PB2 (ADC5/INT1/ACMPN0/PCINT2) (io), 17 PC4 (ADC8/ACMPN3/AMP1-/PCINT12) (io), 18 PC5 (ADC9/ACMP3/AMP1+/PCINT13) (io), 19 AVCC (power), 20 AGND (power), 21 AREF (ISRC) (power), 22 PC6 (ADC10/ACMP1/PCINT14) (io), 23 PB3 (AMP0-/PCINT3) (io), 24 PB4 (AMP0+/PCINT4) (io), 25 PC7 (D2A/AMP2+/PCINT15) (io), 26 PB5 (ADC6/INT2/ACMPN1/AMP2-/PCINT5) (io), 27 PB6 (ADC7/PSCOUT1B/PCINT6) (io), 28 PB7 (ADC4/PSCOUT0B/SCK/PCINT7) (io), 29 PD0 (PCINT16/PSCOUT0A) (io), 30 PC0 (PCINT8/INT3/PSCOUT1A) (io), 31 PE0 (PCINT24/RESET/OCD) (io), 32 PD1 (PCINT17/PSCIN0/CLKO) (io)

## ATmega16M1-15MD
designator U?
8-bit Automotive AVR Microcontroller, 4.5-5.5V, 16MHz, 16KB Flash, 512 Bytes EEPROM, 1KB SRAM, Extended Grade (-40°C to +150°C), 32-Pin VQFN; DatasheetVersion: revG, Sep-2011; PackageVersion: revF, Jul-2007; PackageReference: 32PV; PackageDescription: 32-Pin Quad Flat No-Lead, 7 x 7 mm Body, 0.65 mm Pitch; Code_JEDEC: MO-220VKKC; ComponentLink1Description: Manufacturer URL; ComponentLink1URL: http://www.atmel.com/; ComponentLink2Description: ATmega32C1/32M1/64C1/64M1 Automotive Datasheet; ComponentLink2URL: http://www.atmel.com/dyn/resources/prod_documents/doc7647.pdf; ComponentLink3Description: ATmega16M1/32M1/32C1/64M1/64C1 Appendix; ComponentLink3URL: http://www.atmel.com/dyn/resources/prod_documents/doc7781.pdf
footprint 32PV_N (QFN, 32-Leads, Body 7x7mm, Pitch 0.65mm, Thermal Pad 4.6x4.6mm, IPC Medium Density)
footprint 32PV_L (QFN, 32-Leads, Body 7x7mm, Pitch 0.65mm, Thermal Pad 4.6x4.6mm, IPC High Density)
footprint 32PV_M (QFN, 32-Leads, Body 7x7mm, Pitch 0.65mm, Thermal Pad 4.6x4.6mm, IPC Low Density)
pins: 1 PD2 (PCINT18/PSCIN2/OC1A/MISO_A) (io), 2 PD3 (PCINT19/TXD/TXLIN/OC0A/SS/MOSI_A) (io), 3 PC1 (PCINT9/PSCIN1/OC1B/SS_A) (io), 4 VCC (power), 5 GND (power), 6 PC2 (PCINT10/T0/TXCAN) (io), 7 PC3 (PCINT11/T1/RXCAN/ICP1B) (io), 8 PB0 (PCINT0/MISO/PSCOUT2A) (io), 9 PB1 (PCINT1/MOSI/PSCOUT2B) (io), 10 PE1 (PCINT25/OC0B/XTAL1) (io), 11 PE2 (PCINT26/ADC0/XTAL2) (io), 12 PD4 (PCINT20/ADC1/RXD/RXLIN/ICP1A/SCK_A) (io), 13 PD5 (ADC2/ACMP2/PCINT21) (io), 14 PD6 (ADC3/ACMPN2/INT0/PCINT22) (io), 15 PD7 (ACMP0/PCINT23) (io), 16 PB2 (ADC5/INT1/ACMPN0/PCINT2) (io), 17 PC4 (ADC8/ACMPN3/AMP1-/PCINT12) (io), 18 PC5 (ADC9/ACMP3/AMP1+/PCINT13) (io), 19 AVCC (power), 20 AGND (power), 21 AREF (ISRC) (power), 22 PC6 (ADC10/ACMP1/PCINT14) (io), 23 PB3 (AMP0-/PCINT3) (io), 24 PB4 (AMP0+/PCINT4) (io), 25 PC7 (D2A/AMP2+/PCINT15) (io), 26 PB5 (ADC6/INT2/ACMPN1/AMP2-/PCINT5) (io), 27 PB6 (ADC7/PSCOUT1B/PCINT6) (io), 28 PB7 (ADC4/PSCOUT0B/SCK/PCINT7) (io), 29 PD0 (PCINT16/PSCOUT0A) (io), 30 PC0 (PCINT8/INT3/PSCOUT1A) (io), 31 PE0 (PCINT24/RESET/OCD) (io), 32 PD1 (PCINT17/PSCIN0/CLKO) (io), 33 DAP (power)

## ATmega16M1-15MZ
designator U?
8-bit Automotive AVR Microcontroller, 2.7-5.5V, 16KB Flash, 512 Bytes EEPROM, 1KB SRAM, 12-bit PSC, 32-Pin QFN, (-40°C to 125°C); DatasheetVersion: revG, Sep-2011; PackageVersion: revF, Jul-2007; PackageReference: 32PV; PackageDescription: 32-Pin Quad Flat No-Lead, 7 x 7 mm Body, 0.65 mm Pitch; Code_JEDEC: MO-220VKKC; ComponentLink1Description: Manufacturer URL; ComponentLink1URL: http://www.atmel.com/; ComponentLink2Description: ATmega32C1/32M1/64C1/64M1 Automotive Datasheet; ComponentLink2URL: http://www.atmel.com/dyn/resources/prod_documents/doc7647.pdf; ComponentLink3Description: ATmega16M1/32M1/32C1/64M1/64C1 Appendix; ComponentLink3URL: http://www.atmel.com/dyn/resources/prod_documents/doc7781.pdf
footprint 32PV_N (QFN, 32-Leads, Body 7x7mm, Pitch 0.65mm, Thermal Pad 4.6x4.6mm, IPC Medium Density)
footprint 32PV_L (QFN, 32-Leads, Body 7x7mm, Pitch 0.65mm, Thermal Pad 4.6x4.6mm, IPC High Density)
footprint 32PV_M (QFN, 32-Leads, Body 7x7mm, Pitch 0.65mm, Thermal Pad 4.6x4.6mm, IPC Low Density)
pins: 1 PD2 (PCINT18/PSCIN2/OC1A/MISO_A) (io), 2 PD3 (PCINT19/TXD/TXLIN/OC0A/SS/MOSI_A) (io), 3 PC1 (PCINT9/PSCIN1/OC1B/SS_A) (io), 4 VCC (power), 5 GND (power), 6 PC2 (PCINT10/T0/TXCAN) (io), 7 PC3 (PCINT11/T1/RXCAN/ICP1B) (io), 8 PB0 (PCINT0/MISO/PSCOUT2A) (io), 9 PB1 (PCINT1/MOSI/PSCOUT2B) (io), 10 PE1 (PCINT25/OC0B/XTAL1) (io), 11 PE2 (PCINT26/ADC0/XTAL2) (io), 12 PD4 (PCINT20/ADC1/RXD/RXLIN/ICP1A/SCK_A) (io), 13 PD5 (ADC2/ACMP2/PCINT21) (io), 14 PD6 (ADC3/ACMPN2/INT0/PCINT22) (io), 15 PD7 (ACMP0/PCINT23) (io), 16 PB2 (ADC5/INT1/ACMPN0/PCINT2) (io), 17 PC4 (ADC8/ACMPN3/AMP1-/PCINT12) (io), 18 PC5 (ADC9/ACMP3/AMP1+/PCINT13) (io), 19 AVCC (power), 20 AGND (power), 21 AREF (ISRC) (power), 22 PC6 (ADC10/ACMP1/PCINT14) (io), 23 PB3 (AMP0-/PCINT3) (io), 24 PB4 (AMP0+/PCINT4) (io), 25 PC7 (D2A/AMP2+/PCINT15) (io), 26 PB5 (ADC6/INT2/ACMPN1/AMP2-/PCINT5) (io), 27 PB6 (ADC7/PSCOUT1B/PCINT6) (io), 28 PB7 (ADC4/PSCOUT0B/SCK/PCINT7) (io), 29 PD0 (PCINT16/PSCOUT0A) (io), 30 PC0 (PCINT8/INT3/PSCOUT1A) (io), 31 PE0 (PCINT24/RESET/OCD) (io), 32 PD1 (PCINT17/PSCIN0/CLKO) (io), 33 DAP (power)

## ATmega16M1-AU
designator U?
8-bit AVR Microcontroller, 2.7-5.5V, 16MHz, 16KB Flash, 512 Bytes EEPROM, 1KB SRAM, Industrial Grade (-40° to +85°C), 32-Pin TQFP; DatasheetVersion: revD, Nov-2010; PackageVersion: revC, Oct-2010; PackageReference: 32A; PackageDescription: 32-Lead, 7x7x1.0 mm Body, 0.8mm Lead Pitch, Thin Profile Plastic Quad Flat Package (TQFP); Code_JEDEC: MS-026-ABA; ComponentLink1Description: Manufacturer URL; ComponentLink1URL: http://www.atmel.com/; ComponentLink2Description: ATmega16M1/32M1/64M1 Datasheet; ComponentLink2URL: http://www.atmel.com/dyn/resources/prod_documents/doc8209.pdf; ComponentLink3Description: ATmega16M1/32M1/64M1 Summary; ComponentLink3URL: http://www.atmel.com/dyn/resources/prod_documents/8209S.pdf
footprint 32A_N (Thin QFP, 32-Leads, Body 7x7mm, Pitch 0.8mm, IPC Medium Density)
footprint 32A_L (Thin QFP, 32-Leads, Body 7x7mm, Pitch 0.8mm, IPC High Density)
footprint 32A_M (Thin QFP, 32-Leads, Body 7x7mm, Pitch 0.8mm, IPC Low Density)
pins: 1 PD2 (PCINT18/PSCIN2/OC1A/MISO_A) (io), 2 PD3 (PCINT19/TXD/TXLIN/OC0A/SS/MOSI_A) (io), 3 PC1 (PCINT9/PSCIN1/OC1B/SS_A) (io), 4 VCC (power), 5 GND (power), 6 PC2 (PCINT10/T0/TXCAN) (io), 7 PC3 (PCINT11/T1/RXCAN/ICP1B) (io), 8 PB0 (PCINT0/MISO/PSCOUT2A) (io), 9 PB1 (PCINT1/MOSI/PSCOUT2B) (io), 10 PE1 (PCINT25/OC0B/XTAL1) (io), 11 PE2 (PCINT26/ADC0/XTAL2) (io), 12 PD4 (PCINT20/ADC1/RXD/RXLIN/ICP1A/SCK_A) (io), 13 PD5 (ADC2/ACMP2/PCINT21) (io), 14 PD6 (ADC3/ACMPN2/INT0/PCINT22) (io), 15 PD7 (ACMP0/PCINT23) (io), 16 PB2 (ADC5/INT1/ACMPN0/PCINT2) (io), 17 PC4 (ADC8/ACMPN3/AMP1-/PCINT12) (io), 18 PC5 (ADC9/ACMP3/AMP1+/PCINT13) (io), 19 AVCC (power), 20 AGND (power), 21 AREF (ISRC) (power), 22 PC6 (ADC10/ACMP1/PCINT14) (io), 23 PB3 (AMP0-/PCINT3) (io), 24 PB4 (AMP0+/PCINT4) (io), 25 PC7 (D2A/AMP2+/PCINT15) (io), 26 PB5 (ADC6/INT2/ACMPN1/AMP2-/PCINT5) (io), 27 PB6 (ADC7/PSCOUT1B/PCINT6) (io), 28 PB7 (ADC4/PSCOUT0B/SCK/PCINT7) (io), 29 PD0 (PCINT16/PSCOUT0A) (io), 30 PC0 (PCINT8/INT3/PSCOUT1A) (io), 31 PE0 (PCINT24/RESET/OCD) (io), 32 PD1 (PCINT17/PSCIN0/CLKO) (io)

## ATmega16M1-MU
designator U?
8-bit AVR Microcontroller, 2.7-5.5V, 16MHz, 16KB Flash, 512 Bytes EEPROM, 1KB SRAM, Industrial Grade (-40° to +85°C), 32-Pin QFN; DatasheetVersion: revD, Nov-2010; PackageVersion: revF, Jul-2007; PackageReference: 32PV; PackageDescription: 32-Pin Quad Flat No-Lead, 7 x 7 mm Body, 0.65 mm Pitch; Code_JEDEC: MO-220VKKC; ComponentLink1Description: Manufacturer URL; ComponentLink1URL: http://www.atmel.com/; ComponentLink2Description: ATmega16M1/32M1/64M1 Datasheet; ComponentLink2URL: http://www.atmel.com/dyn/resources/prod_documents/doc8209.pdf; ComponentLink3Description: ATmega16M1/32M1/64M1 Summary; ComponentLink3URL: http://www.atmel.com/dyn/resources/prod_documents/8209S.pdf
footprint 32PV_N (QFN, 32-Leads, Body 7x7mm, Pitch 0.65mm, Thermal Pad 4.6x4.6mm, IPC Medium Density)
footprint 32PV_L (QFN, 32-Leads, Body 7x7mm, Pitch 0.65mm, Thermal Pad 4.6x4.6mm, IPC High Density)
footprint 32PV_M (QFN, 32-Leads, Body 7x7mm, Pitch 0.65mm, Thermal Pad 4.6x4.6mm, IPC Low Density)
pins: 1 PD2 (PCINT18/PSCIN2/OC1A/MISO_A) (io), 2 PD3 (PCINT19/TXD/TXLIN/OC0A/SS/MOSI_A) (io), 3 PC1 (PCINT9/PSCIN1/OC1B/SS_A) (io), 4 VCC (power), 5 GND (power), 6 PC2 (PCINT10/T0/TXCAN) (io), 7 PC3 (PCINT11/T1/RXCAN/ICP1B) (io), 8 PB0 (PCINT0/MISO/PSCOUT2A) (io), 9 PB1 (PCINT1/MOSI/PSCOUT2B) (io), 10 PE1 (PCINT25/OC0B/XTAL1) (io), 11 PE2 (PCINT26/ADC0/XTAL2) (io), 12 PD4 (PCINT20/ADC1/RXD/RXLIN/ICP1A/SCK_A) (io), 13 PD5 (ADC2/ACMP2/PCINT21) (io), 14 PD6 (ADC3/ACMPN2/INT0/PCINT22) (io), 15 PD7 (ACMP0/PCINT23) (io), 16 PB2 (ADC5/INT1/ACMPN0/PCINT2) (io), 17 PC4 (ADC8/ACMPN3/AMP1-/PCINT12) (io), 18 PC5 (ADC9/ACMP3/AMP1+/PCINT13) (io), 19 AVCC (power), 20 AGND (power), 21 AREF (ISRC) (power), 22 PC6 (ADC10/ACMP1/PCINT14) (io), 23 PB3 (AMP0-/PCINT3) (io), 24 PB4 (AMP0+/PCINT4) (io), 25 PC7 (D2A/AMP2+/PCINT15) (io), 26 PB5 (ADC6/INT2/ACMPN1/AMP2-/PCINT5) (io), 27 PB6 (ADC7/PSCOUT1B/PCINT6) (io), 28 PB7 (ADC4/PSCOUT0B/SCK/PCINT7) (io), 29 PD0 (PCINT16/PSCOUT0A) (io), 30 PC0 (PCINT8/INT3/PSCOUT1A) (io), 31 PE0 (PCINT24/RESET/OCD) (io), 32 PD1 (PCINT17/PSCIN0/CLKO) (io), 33 DAP (power)

## ATmega32C1-15AD
designator U?
8-bit Automotive AVR Microcontroller, 4.5-5.5V, 16MHz, 32KB Flash, 1KB EEPROM, 2KB SRAM, Extended Grade (-40°C to +150°C), 32-Pin TQFP; DatasheetVersion: revG, Sep-2011; PackageVersion: revB, Jul-2007; PackageReference: 32MA; PackageDescription: 32-Lead Thin Profile Plastic Quad Flatpack (TQFP) - 7x7x1mm Body,  0.8 mm Pitch; ComponentLink1Description: Manufacturer URL; ComponentLink1URL: http://www.atmel.com/; ComponentLink2Description: ATmega32C1/32M1/64C1/64M1 Automotive Datasheet; ComponentLink2URL: http://www.atmel.com/dyn/resources/prod_documents/doc7647.pdf; ComponentLink3Description: ATmega16M1/32M1/32C1/64M1/64C1 Appendix; ComponentLink3URL: http://www.atmel.com/dyn/resources/prod_documents/doc7781.pdf
footprint 32MA_N (Thin QFP, 32-Leads, Body 7x7mm, Pitch 0.8mm, IPC Medium Density)
footprint 32MA_L (Thin QFP, 32-Leads, Body 7x7mm, Pitch 0.8mm, IPC High Density)
footprint 32MA_M (Thin QFP, 32-Leads, Body 7x7mm, Pitch 0.8mm, IPC Low Density)
pins: 1 PD2 (PCINT18/PSCIN2/OC1A/MISO_A) (io), 2 PD3 (PCINT19/TXD/TXLIN/OC0A/SS/MOSI_A) (io), 3 PC1 (PCINT9/PSCIN1/OC1B/SS_A) (io), 4 VCC (power), 5 GND (power), 6 PC2 (PCINT10/T0/TXCAN) (io), 7 PC3 (PCINT11/T1/RXCAN/ICP1B) (io), 8 PB0 (PCINT0/MISO/PSCOUT2A) (io), 9 PB1 (PCINT1/MOSI/PSCOUT2B) (io), 10 PE1 (PCINT25/OC0B/XTAL1) (io), 11 PE2 (PCINT26/ADC0/XTAL2) (io), 12 PD4 (PCINT20/ADC1/RXD/RXLIN/ICP1A/SCK_A) (io), 13 PD5 (ADC2/ACMP2/PCINT21) (io), 14 PD6 (ADC3/ACMPN2/INT0/PCINT22) (io), 15 PD7 (ACMP0/PCINT23) (io), 16 PB2 (ADC5/INT1/ACMPN0/PCINT2) (io), 17 PC4 (ADC8/ACMPN3/AMP1-/PCINT12) (io), 18 PC5 (ADC9/ACMP3/AMP1+/PCINT13) (io), 19 AVCC (power), 20 AGND (power), 21 AREF (ISRC) (power), 22 PC6 (ADC10/ACMP1/PCINT14) (io), 23 PB3 (AMP0-/PCINT3) (io), 24 PB4 (AMP0+/PCINT4) (io), 25 PC7 (D2A/AMP2+/PCINT15) (io), 26 PB5 (ADC6/INT2/ACMPN1/AMP2-/PCINT5) (io), 27 PB6 (ADC7/PSCOUT1B/PCINT6) (io), 28 PB7 (ADC4/PSCOUT0B/SCK/PCINT7) (io), 29 PD0 (PCINT16/PSCOUT0A) (io), 30 PC0 (PCINT8/INT3/PSCOUT1A) (io), 31 PE0 (PCINT24/RESET/OCD) (io), 32 PD1 (PCINT17/PSCIN0/CLKO) (io)

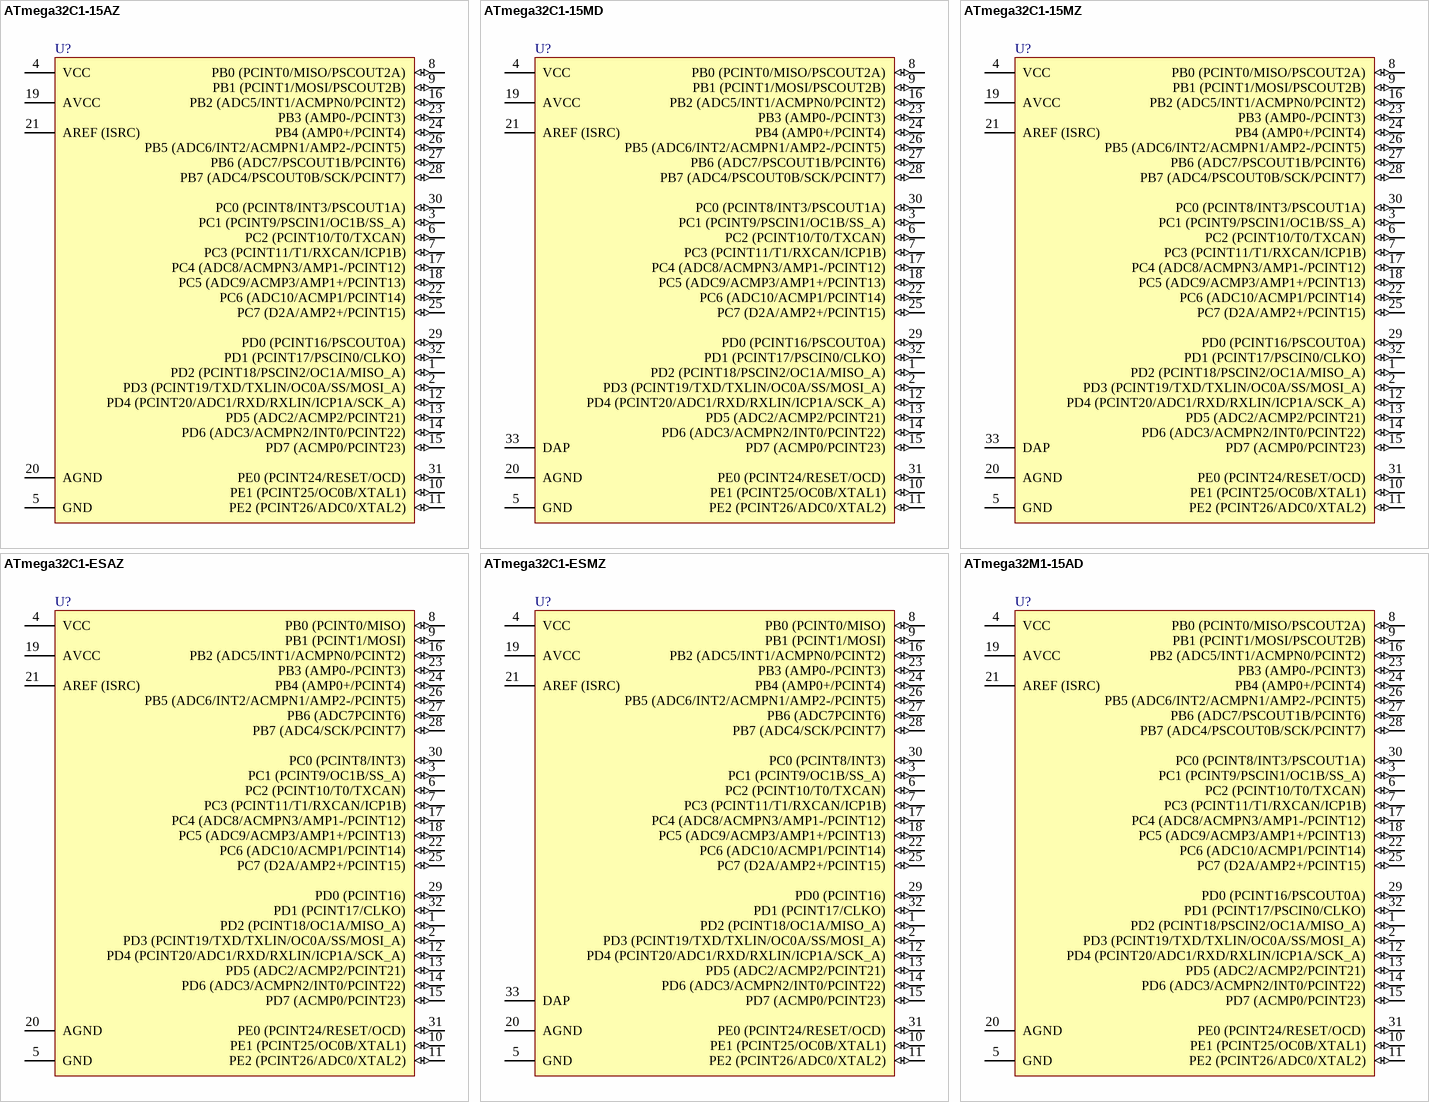
[diagram p5: symbols ATmega32C1-15AZ to ATmega32M1-15AD]

## ATmega32C1-15AZ
designator U?
8-bit Automotive AVR Microcontroller, 2.7-5.5V, 32KB Flash, 1KB EEPROM, 2KB SRAM, 32-pin TQFP, (-40°C to 125°C); DatasheetVersion: revG, Sep-2011; PackageVersion: revB, Jul-2007; PackageReference: 32MA; PackageDescription: 32-Lead Thin Profile Plastic Quad Flatpack (TQFP) - 7x7x1mm Body,  0.8 mm Pitch; ComponentLink1Description: Manufacturer URL; ComponentLink1URL: http://www.atmel.com/; ComponentLink2Description: ATmega32C1/32M1/64C1/64M1 Automotive Datasheet; ComponentLink2URL: http://www.atmel.com/dyn/resources/prod_documents/doc7647.pdf; ComponentLink3Description: ATmega16M1/32M1/32C1/64M1/64C1 Appendix; ComponentLink3URL: http://www.atmel.com/dyn/resources/prod_documents/doc7781.pdf
footprint 32MA_N (Thin QFP, 32-Leads, Body 7x7mm, Pitch 0.8mm, IPC Medium Density)
footprint 32MA_L (Thin QFP, 32-Leads, Body 7x7mm, Pitch 0.8mm, IPC High Density)
footprint 32MA_M (Thin QFP, 32-Leads, Body 7x7mm, Pitch 0.8mm, IPC Low Density)
pins: 1 PD2 (PCINT18/PSCIN2/OC1A/MISO_A) (io), 2 PD3 (PCINT19/TXD/TXLIN/OC0A/SS/MOSI_A) (io), 3 PC1 (PCINT9/PSCIN1/OC1B/SS_A) (io), 4 VCC (power), 5 GND (power), 6 PC2 (PCINT10/T0/TXCAN) (io), 7 PC3 (PCINT11/T1/RXCAN/ICP1B) (io), 8 PB0 (PCINT0/MISO/PSCOUT2A) (io), 9 PB1 (PCINT1/MOSI/PSCOUT2B) (io), 10 PE1 (PCINT25/OC0B/XTAL1) (io), 11 PE2 (PCINT26/ADC0/XTAL2) (io), 12 PD4 (PCINT20/ADC1/RXD/RXLIN/ICP1A/SCK_A) (io), 13 PD5 (ADC2/ACMP2/PCINT21) (io), 14 PD6 (ADC3/ACMPN2/INT0/PCINT22) (io), 15 PD7 (ACMP0/PCINT23) (io), 16 PB2 (ADC5/INT1/ACMPN0/PCINT2) (io), 17 PC4 (ADC8/ACMPN3/AMP1-/PCINT12) (io), 18 PC5 (ADC9/ACMP3/AMP1+/PCINT13) (io), 19 AVCC (power), 20 AGND (power), 21 AREF (ISRC) (power), 22 PC6 (ADC10/ACMP1/PCINT14) (io), 23 PB3 (AMP0-/PCINT3) (io), 24 PB4 (AMP0+/PCINT4) (io), 25 PC7 (D2A/AMP2+/PCINT15) (io), 26 PB5 (ADC6/INT2/ACMPN1/AMP2-/PCINT5) (io), 27 PB6 (ADC7/PSCOUT1B/PCINT6) (io), 28 PB7 (ADC4/PSCOUT0B/SCK/PCINT7) (io), 29 PD0 (PCINT16/PSCOUT0A) (io), 30 PC0 (PCINT8/INT3/PSCOUT1A) (io), 31 PE0 (PCINT24/RESET/OCD) (io), 32 PD1 (PCINT17/PSCIN0/CLKO) (io)

## ATmega32C1-15MD
designator U?
8-bit Automotive AVR Microcontroller, 4.5-5.5V, 16MHz, 32KB Flash, 1KB EEPROM, 2KB SRAM, Extended Grade (-40°C to +150°C), 32-Pin VQFN; DatasheetVersion: revG, Sep-2011; PackageVersion: revF, Jul-2007; PackageReference: 32PV; PackageDescription: 32-Pin Quad Flat No-Lead, 7 x 7 mm Body, 0.65 mm Pitch; Code_JEDEC: MO-220VKKC; ComponentLink1Description: Manufacturer URL; ComponentLink1URL: http://www.atmel.com/; ComponentLink2Description: ATmega32C1/32M1/64C1/64M1 Automotive Datasheet; ComponentLink2URL: http://www.atmel.com/dyn/resources/prod_documents/doc7647.pdf; ComponentLink3Description: ATmega16M1/32M1/32C1/64M1/64C1 Appendix; ComponentLink3URL: http://www.atmel.com/dyn/resources/prod_documents/doc7781.pdf
footprint 32PV_N (QFN, 32-Leads, Body 7x7mm, Pitch 0.65mm, Thermal Pad 4.6x4.6mm, IPC Medium Density)
footprint 32PV_L (QFN, 32-Leads, Body 7x7mm, Pitch 0.65mm, Thermal Pad 4.6x4.6mm, IPC High Density)
footprint 32PV_M (QFN, 32-Leads, Body 7x7mm, Pitch 0.65mm, Thermal Pad 4.6x4.6mm, IPC Low Density)
pins: 1 PD2 (PCINT18/PSCIN2/OC1A/MISO_A) (io), 2 PD3 (PCINT19/TXD/TXLIN/OC0A/SS/MOSI_A) (io), 3 PC1 (PCINT9/PSCIN1/OC1B/SS_A) (io), 4 VCC (power), 5 GND (power), 6 PC2 (PCINT10/T0/TXCAN) (io), 7 PC3 (PCINT11/T1/RXCAN/ICP1B) (io), 8 PB0 (PCINT0/MISO/PSCOUT2A) (io), 9 PB1 (PCINT1/MOSI/PSCOUT2B) (io), 10 PE1 (PCINT25/OC0B/XTAL1) (io), 11 PE2 (PCINT26/ADC0/XTAL2) (io), 12 PD4 (PCINT20/ADC1/RXD/RXLIN/ICP1A/SCK_A) (io), 13 PD5 (ADC2/ACMP2/PCINT21) (io), 14 PD6 (ADC3/ACMPN2/INT0/PCINT22) (io), 15 PD7 (ACMP0/PCINT23) (io), 16 PB2 (ADC5/INT1/ACMPN0/PCINT2) (io), 17 PC4 (ADC8/ACMPN3/AMP1-/PCINT12) (io), 18 PC5 (ADC9/ACMP3/AMP1+/PCINT13) (io), 19 AVCC (power), 20 AGND (power), 21 AREF (ISRC) (power), 22 PC6 (ADC10/ACMP1/PCINT14) (io), 23 PB3 (AMP0-/PCINT3) (io), 24 PB4 (AMP0+/PCINT4) (io), 25 PC7 (D2A/AMP2+/PCINT15) (io), 26 PB5 (ADC6/INT2/ACMPN1/AMP2-/PCINT5) (io), 27 PB6 (ADC7/PSCOUT1B/PCINT6) (io), 28 PB7 (ADC4/PSCOUT0B/SCK/PCINT7) (io), 29 PD0 (PCINT16/PSCOUT0A) (io), 30 PC0 (PCINT8/INT3/PSCOUT1A) (io), 31 PE0 (PCINT24/RESET/OCD) (io), 32 PD1 (PCINT17/PSCIN0/CLKO) (io), 33 DAP (power)

## ATmega32C1-15MZ
designator U?
8-bit Automotive AVR Microcontroller, 2.7-5.5V, 32KB Flash, 1KB EEPROM, 2KB SRAM, 32-Pin QFN, (-40°C to 125°C); DatasheetVersion: revG, Sep-2011; PackageVersion: revF, Jul-2007; PackageReference: 32PV; PackageDescription: 32-Pin Quad Flat No-Lead, 7 x 7 mm Body, 0.65 mm Pitch; Code_JEDEC: MO-220VKKC; ComponentLink1Description: Manufacturer URL; ComponentLink1URL: http://www.atmel.com/; ComponentLink2Description: ATmega32C1/32M1/64C1/64M1 Automotive Datasheet; ComponentLink2URL: http://www.atmel.com/dyn/resources/prod_documents/doc7647.pdf; ComponentLink3Description: ATmega16M1/32M1/32C1/64M1/64C1 Appendix; ComponentLink3URL: http://www.atmel.com/dyn/resources/prod_documents/doc7781.pdf
footprint 32PV_N (QFN, 32-Leads, Body 7x7mm, Pitch 0.65mm, Thermal Pad 4.6x4.6mm, IPC Medium Density)
footprint 32PV_L (QFN, 32-Leads, Body 7x7mm, Pitch 0.65mm, Thermal Pad 4.6x4.6mm, IPC High Density)
footprint 32PV_M (QFN, 32-Leads, Body 7x7mm, Pitch 0.65mm, Thermal Pad 4.6x4.6mm, IPC Low Density)
pins: 1 PD2 (PCINT18/PSCIN2/OC1A/MISO_A) (io), 2 PD3 (PCINT19/TXD/TXLIN/OC0A/SS/MOSI_A) (io), 3 PC1 (PCINT9/PSCIN1/OC1B/SS_A) (io), 4 VCC (power), 5 GND (power), 6 PC2 (PCINT10/T0/TXCAN) (io), 7 PC3 (PCINT11/T1/RXCAN/ICP1B) (io), 8 PB0 (PCINT0/MISO/PSCOUT2A) (io), 9 PB1 (PCINT1/MOSI/PSCOUT2B) (io), 10 PE1 (PCINT25/OC0B/XTAL1) (io), 11 PE2 (PCINT26/ADC0/XTAL2) (io), 12 PD4 (PCINT20/ADC1/RXD/RXLIN/ICP1A/SCK_A) (io), 13 PD5 (ADC2/ACMP2/PCINT21) (io), 14 PD6 (ADC3/ACMPN2/INT0/PCINT22) (io), 15 PD7 (ACMP0/PCINT23) (io), 16 PB2 (ADC5/INT1/ACMPN0/PCINT2) (io), 17 PC4 (ADC8/ACMPN3/AMP1-/PCINT12) (io), 18 PC5 (ADC9/ACMP3/AMP1+/PCINT13) (io), 19 AVCC (power), 20 AGND (power), 21 AREF (ISRC) (power), 22 PC6 (ADC10/ACMP1/PCINT14) (io), 23 PB3 (AMP0-/PCINT3) (io), 24 PB4 (AMP0+/PCINT4) (io), 25 PC7 (D2A/AMP2+/PCINT15) (io), 26 PB5 (ADC6/INT2/ACMPN1/AMP2-/PCINT5) (io), 27 PB6 (ADC7/PSCOUT1B/PCINT6) (io), 28 PB7 (ADC4/PSCOUT0B/SCK/PCINT7) (io), 29 PD0 (PCINT16/PSCOUT0A) (io), 30 PC0 (PCINT8/INT3/PSCOUT1A) (io), 31 PE0 (PCINT24/RESET/OCD) (io), 32 PD1 (PCINT17/PSCIN0/CLKO) (io), 33 DAP (power)

## ATmega32C1-ESAZ
designator U?
8-bit Automotive AVR Microcontroller, 32KB Flash, 1KB EEPROM, 2KB SRAM, Engineering Sample, 32-Pin TQFP; DatasheetVersion: revF, Apr-2009; PackageVersion: revB, Jul-2007; PackageReference: 32MA; PackageDescription: 32-Lead Thin Profile Plastic Quad Flatpack (TQFP) - 7x7x1mm Body,  0.8 mm Pitch; ComponentLink1Description: Manufacturer URL; ComponentLink1URL: http://www.atmel.com/
footprint 32MA_N (Thin QFP, 32-Leads, Body 7x7mm, Pitch 0.8mm, IPC Medium Density)
footprint 32MA_L (Thin QFP, 32-Leads, Body 7x7mm, Pitch 0.8mm, IPC High Density)
footprint 32MA_M (Thin QFP, 32-Leads, Body 7x7mm, Pitch 0.8mm, IPC Low Density)
pins: 1 PD2 (PCINT18/OC1A/MISO_A) (io), 2 PD3 (PCINT19/TXD/TXLIN/OC0A/SS/MOSI_A) (io), 3 PC1 (PCINT9/OC1B/SS_A) (io), 4 VCC (power), 5 GND (power), 6 PC2 (PCINT10/T0/TXCAN) (io), 7 PC3 (PCINT11/T1/RXCAN/ICP1B) (io), 8 PB0 (PCINT0/MISO) (io), 9 PB1 (PCINT1/MOSI) (io), 10 PE1 (PCINT25/OC0B/XTAL1) (io), 11 PE2 (PCINT26/ADC0/XTAL2) (io), 12 PD4 (PCINT20/ADC1/RXD/RXLIN/ICP1A/SCK_A) (io), 13 PD5 (ADC2/ACMP2/PCINT21) (io), 14 PD6 (ADC3/ACMPN2/INT0/PCINT22) (io), 15 PD7 (ACMP0/PCINT23) (io), 16 PB2 (ADC5/INT1/ACMPN0/PCINT2) (io), 17 PC4 (ADC8/ACMPN3/AMP1-/PCINT12) (io), 18 PC5 (ADC9/ACMP3/AMP1+/PCINT13) (io), 19 AVCC (power), 20 AGND (power), 21 AREF (ISRC) (power), 22 PC6 (ADC10/ACMP1/PCINT14) (io), 23 PB3 (AMP0-/PCINT3) (io), 24 PB4 (AMP0+/PCINT4) (io), 25 PC7 (D2A/AMP2+/PCINT15) (io), 26 PB5 (ADC6/INT2/ACMPN1/AMP2-/PCINT5) (io), 27 PB6 (ADC7PCINT6) (io), 28 PB7 (ADC4/SCK/PCINT7) (io), 29 PD0 (PCINT16) (io), 30 PC0 (PCINT8/INT3) (io), 31 PE0 (PCINT24/RESET/OCD) (io), 32 PD1 (PCINT17/CLKO) (io)

## ATmega32C1-ESMZ
designator U?
8-bit Automotive AVR Microcontroller, 32KB Flash, 1KB EEPROM, 2KB SRAM, Engineering Sample, 32-Pin VQFN; DatasheetVersion: revF, Apr-2009; PackageVersion: revF, Jul-2007; PackageReference: 32PV; PackageDescription: 32-Pin Quad Flat No-Lead, 7 x 7 mm Body, 0.65 mm Pitch; Code_JEDEC: MO-220VKKC; ComponentLink1Description: Manufacturer URL; ComponentLink1URL: http://www.atmel.com/
footprint 32PV_N (QFN, 32-Leads, Body 7x7mm, Pitch 0.65mm, Thermal Pad 4.6x4.6mm, IPC Medium Density)
footprint 32PV_L (QFN, 32-Leads, Body 7x7mm, Pitch 0.65mm, Thermal Pad 4.6x4.6mm, IPC High Density)
footprint 32PV_M (QFN, 32-Leads, Body 7x7mm, Pitch 0.65mm, Thermal Pad 4.6x4.6mm, IPC Low Density)
pins: 1 PD2 (PCINT18/OC1A/MISO_A) (io), 2 PD3 (PCINT19/TXD/TXLIN/OC0A/SS/MOSI_A) (io), 3 PC1 (PCINT9/OC1B/SS_A) (io), 4 VCC (power), 5 GND (power), 6 PC2 (PCINT10/T0/TXCAN) (io), 7 PC3 (PCINT11/T1/RXCAN/ICP1B) (io), 8 PB0 (PCINT0/MISO) (io), 9 PB1 (PCINT1/MOSI) (io), 10 PE1 (PCINT25/OC0B/XTAL1) (io), 11 PE2 (PCINT26/ADC0/XTAL2) (io), 12 PD4 (PCINT20/ADC1/RXD/RXLIN/ICP1A/SCK_A) (io), 13 PD5 (ADC2/ACMP2/PCINT21) (io), 14 PD6 (ADC3/ACMPN2/INT0/PCINT22) (io), 15 PD7 (ACMP0/PCINT23) (io), 16 PB2 (ADC5/INT1/ACMPN0/PCINT2) (io), 17 PC4 (ADC8/ACMPN3/AMP1-/PCINT12) (io), 18 PC5 (ADC9/ACMP3/AMP1+/PCINT13) (io), 19 AVCC (power), 20 AGND (power), 21 AREF (ISRC) (power), 22 PC6 (ADC10/ACMP1/PCINT14) (io), 23 PB3 (AMP0-/PCINT3) (io), 24 PB4 (AMP0+/PCINT4) (io), 25 PC7 (D2A/AMP2+/PCINT15) (io), 26 PB5 (ADC6/INT2/ACMPN1/AMP2-/PCINT5) (io), 27 PB6 (ADC7PCINT6) (io), 28 PB7 (ADC4/SCK/PCINT7) (io), 29 PD0 (PCINT16) (io), 30 PC0 (PCINT8/INT3) (io), 31 PE0 (PCINT24/RESET/OCD) (io), 32 PD1 (PCINT17/CLKO) (io), 33 DAP (power)

## ATmega32M1-15AD
designator U?
8-bit Automotive AVR Microcontroller, 4.5-5.5V, 16MHz, 32KB Flash, 1KB EEPROM, 2KB SRAM, Extended Grade (-40°C to +150°C), 32-Pin TQFP; DatasheetVersion: revG, Sep-2011; PackageVersion: revB, Jul-2007; PackageReference: 32MA; PackageDescription: 32-Lead Thin Profile Plastic Quad Flatpack (TQFP) - 7x7x1mm Body,  0.8 mm Pitch; ComponentLink1Description: Manufacturer URL; ComponentLink1URL: http://www.atmel.com/; ComponentLink2Description: ATmega32C1/32M1/64C1/64M1 Automotive Datasheet; ComponentLink2URL: http://www.atmel.com/dyn/resources/prod_documents/doc7647.pdf; ComponentLink3Description: ATmega16M1/32M1/32C1/64M1/64C1 Appendix; ComponentLink3URL: http://www.atmel.com/dyn/resources/prod_documents/doc7781.pdf
footprint 32MA_N (Thin QFP, 32-Leads, Body 7x7mm, Pitch 0.8mm, IPC Medium Density)
footprint 32MA_L (Thin QFP, 32-Leads, Body 7x7mm, Pitch 0.8mm, IPC High Density)
footprint 32MA_M (Thin QFP, 32-Leads, Body 7x7mm, Pitch 0.8mm, IPC Low Density)
pins: 1 PD2 (PCINT18/PSCIN2/OC1A/MISO_A) (io), 2 PD3 (PCINT19/TXD/TXLIN/OC0A/SS/MOSI_A) (io), 3 PC1 (PCINT9/PSCIN1/OC1B/SS_A) (io), 4 VCC (power), 5 GND (power), 6 PC2 (PCINT10/T0/TXCAN) (io), 7 PC3 (PCINT11/T1/RXCAN/ICP1B) (io), 8 PB0 (PCINT0/MISO/PSCOUT2A) (io), 9 PB1 (PCINT1/MOSI/PSCOUT2B) (io), 10 PE1 (PCINT25/OC0B/XTAL1) (io), 11 PE2 (PCINT26/ADC0/XTAL2) (io), 12 PD4 (PCINT20/ADC1/RXD/RXLIN/ICP1A/SCK_A) (io), 13 PD5 (ADC2/ACMP2/PCINT21) (io), 14 PD6 (ADC3/ACMPN2/INT0/PCINT22) (io), 15 PD7 (ACMP0/PCINT23) (io), 16 PB2 (ADC5/INT1/ACMPN0/PCINT2) (io), 17 PC4 (ADC8/ACMPN3/AMP1-/PCINT12) (io), 18 PC5 (ADC9/ACMP3/AMP1+/PCINT13) (io), 19 AVCC (power), 20 AGND (power), 21 AREF (ISRC) (power), 22 PC6 (ADC10/ACMP1/PCINT14) (io), 23 PB3 (AMP0-/PCINT3) (io), 24 PB4 (AMP0+/PCINT4) (io), 25 PC7 (D2A/AMP2+/PCINT15) (io), 26 PB5 (ADC6/INT2/ACMPN1/AMP2-/PCINT5) (io), 27 PB6 (ADC7/PSCOUT1B/PCINT6) (io), 28 PB7 (ADC4/PSCOUT0B/SCK/PCINT7) (io), 29 PD0 (PCINT16/PSCOUT0A) (io), 30 PC0 (PCINT8/INT3/PSCOUT1A) (io), 31 PE0 (PCINT24/RESET/OCD) (io), 32 PD1 (PCINT17/PSCIN0/CLKO) (io)

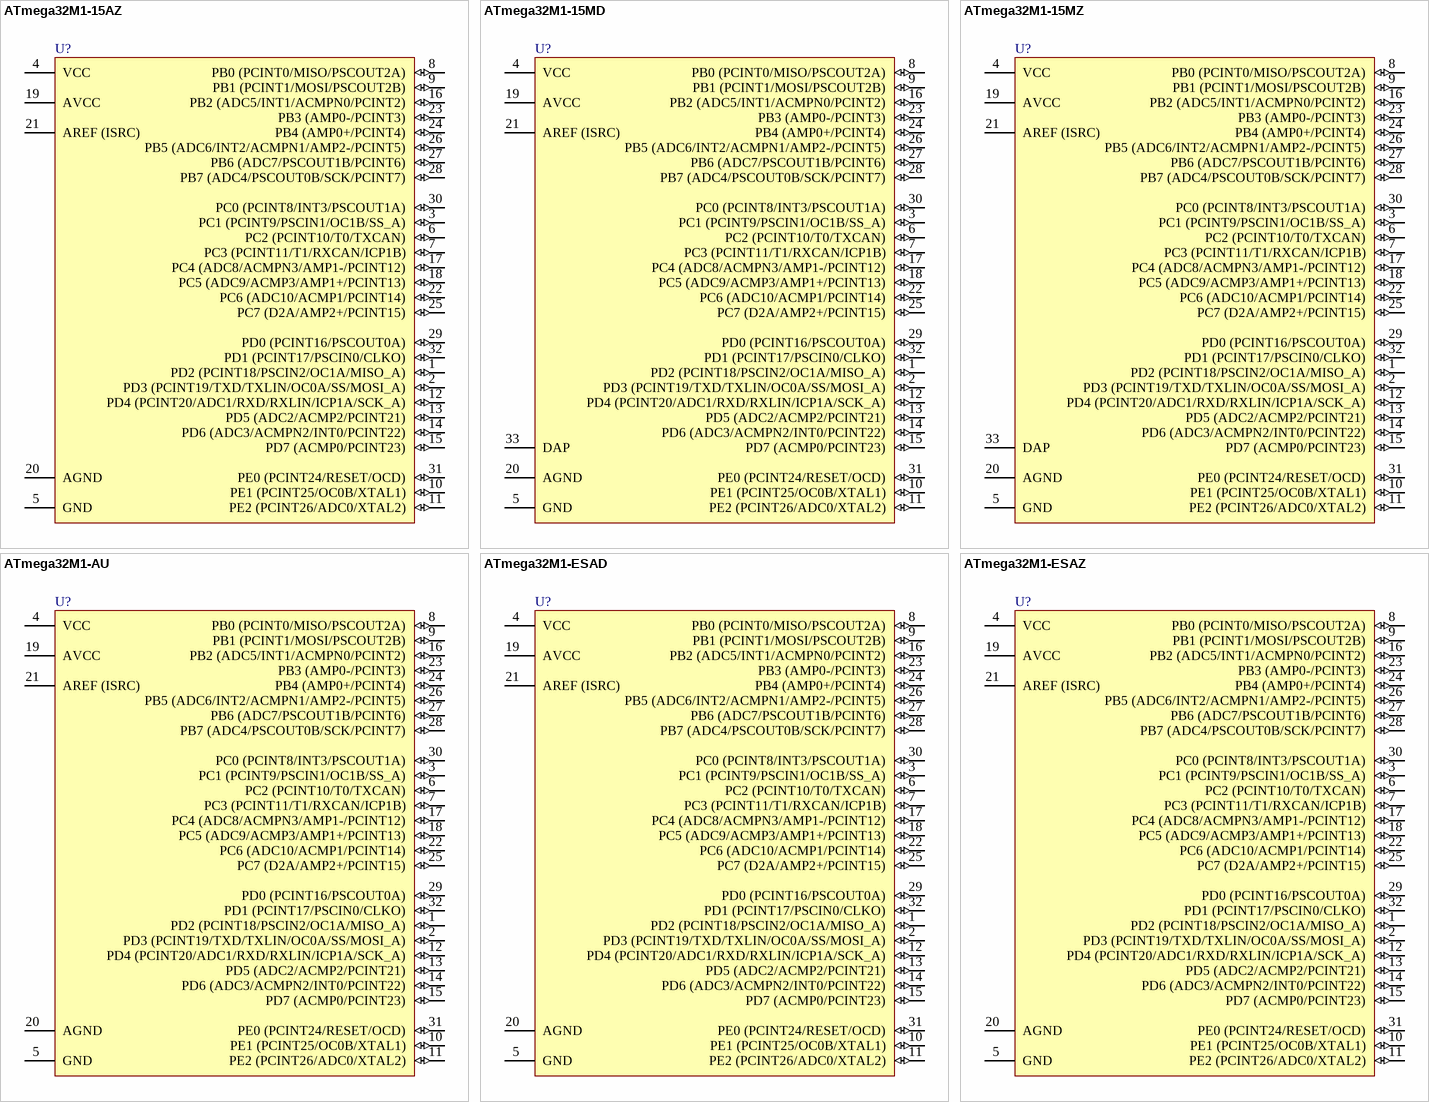
[diagram p6: symbols ATmega32M1-15AZ to ATmega32M1-ESAZ]

## ATmega32M1-15AZ
designator U?
8-bit Automotive AVR Microcontroller, 2.7-5.5V, 32KB Flash, 1KB EEPROM, 2KB SRAM, 12-bit PSC, 32-pin TQFP, (-40°C to 125°C); DatasheetVersion: revG, Sep-2011; PackageVersion: revB, Jul-2007; PackageReference: 32MA; PackageDescription: 32-Lead Thin Profile Plastic Quad Flatpack (TQFP) - 7x7x1mm Body,  0.8 mm Pitch; ComponentLink1Description: Manufacturer URL; ComponentLink1URL: http://www.atmel.com/; ComponentLink2Description: ATmega32C1/32M1/64C1/64M1 Automotive Datasheet; ComponentLink2URL: http://www.atmel.com/dyn/resources/prod_documents/doc7647.pdf; ComponentLink3Description: ATmega16M1/32M1/32C1/64M1/64C1 Appendix; ComponentLink3URL: http://www.atmel.com/dyn/resources/prod_documents/doc7781.pdf
footprint 32MA_N (Thin QFP, 32-Leads, Body 7x7mm, Pitch 0.8mm, IPC Medium Density)
footprint 32MA_L (Thin QFP, 32-Leads, Body 7x7mm, Pitch 0.8mm, IPC High Density)
footprint 32MA_M (Thin QFP, 32-Leads, Body 7x7mm, Pitch 0.8mm, IPC Low Density)
pins: 1 PD2 (PCINT18/PSCIN2/OC1A/MISO_A) (io), 2 PD3 (PCINT19/TXD/TXLIN/OC0A/SS/MOSI_A) (io), 3 PC1 (PCINT9/PSCIN1/OC1B/SS_A) (io), 4 VCC (power), 5 GND (power), 6 PC2 (PCINT10/T0/TXCAN) (io), 7 PC3 (PCINT11/T1/RXCAN/ICP1B) (io), 8 PB0 (PCINT0/MISO/PSCOUT2A) (io), 9 PB1 (PCINT1/MOSI/PSCOUT2B) (io), 10 PE1 (PCINT25/OC0B/XTAL1) (io), 11 PE2 (PCINT26/ADC0/XTAL2) (io), 12 PD4 (PCINT20/ADC1/RXD/RXLIN/ICP1A/SCK_A) (io), 13 PD5 (ADC2/ACMP2/PCINT21) (io), 14 PD6 (ADC3/ACMPN2/INT0/PCINT22) (io), 15 PD7 (ACMP0/PCINT23) (io), 16 PB2 (ADC5/INT1/ACMPN0/PCINT2) (io), 17 PC4 (ADC8/ACMPN3/AMP1-/PCINT12) (io), 18 PC5 (ADC9/ACMP3/AMP1+/PCINT13) (io), 19 AVCC (power), 20 AGND (power), 21 AREF (ISRC) (power), 22 PC6 (ADC10/ACMP1/PCINT14) (io), 23 PB3 (AMP0-/PCINT3) (io), 24 PB4 (AMP0+/PCINT4) (io), 25 PC7 (D2A/AMP2+/PCINT15) (io), 26 PB5 (ADC6/INT2/ACMPN1/AMP2-/PCINT5) (io), 27 PB6 (ADC7/PSCOUT1B/PCINT6) (io), 28 PB7 (ADC4/PSCOUT0B/SCK/PCINT7) (io), 29 PD0 (PCINT16/PSCOUT0A) (io), 30 PC0 (PCINT8/INT3/PSCOUT1A) (io), 31 PE0 (PCINT24/RESET/OCD) (io), 32 PD1 (PCINT17/PSCIN0/CLKO) (io)